# Altium schematic symbol library SCH-47569_A2_Library.SchLib: 98 symbols (part 1 of 3)
Pins are listed as number, name and electrical type; pins without a type are passive.

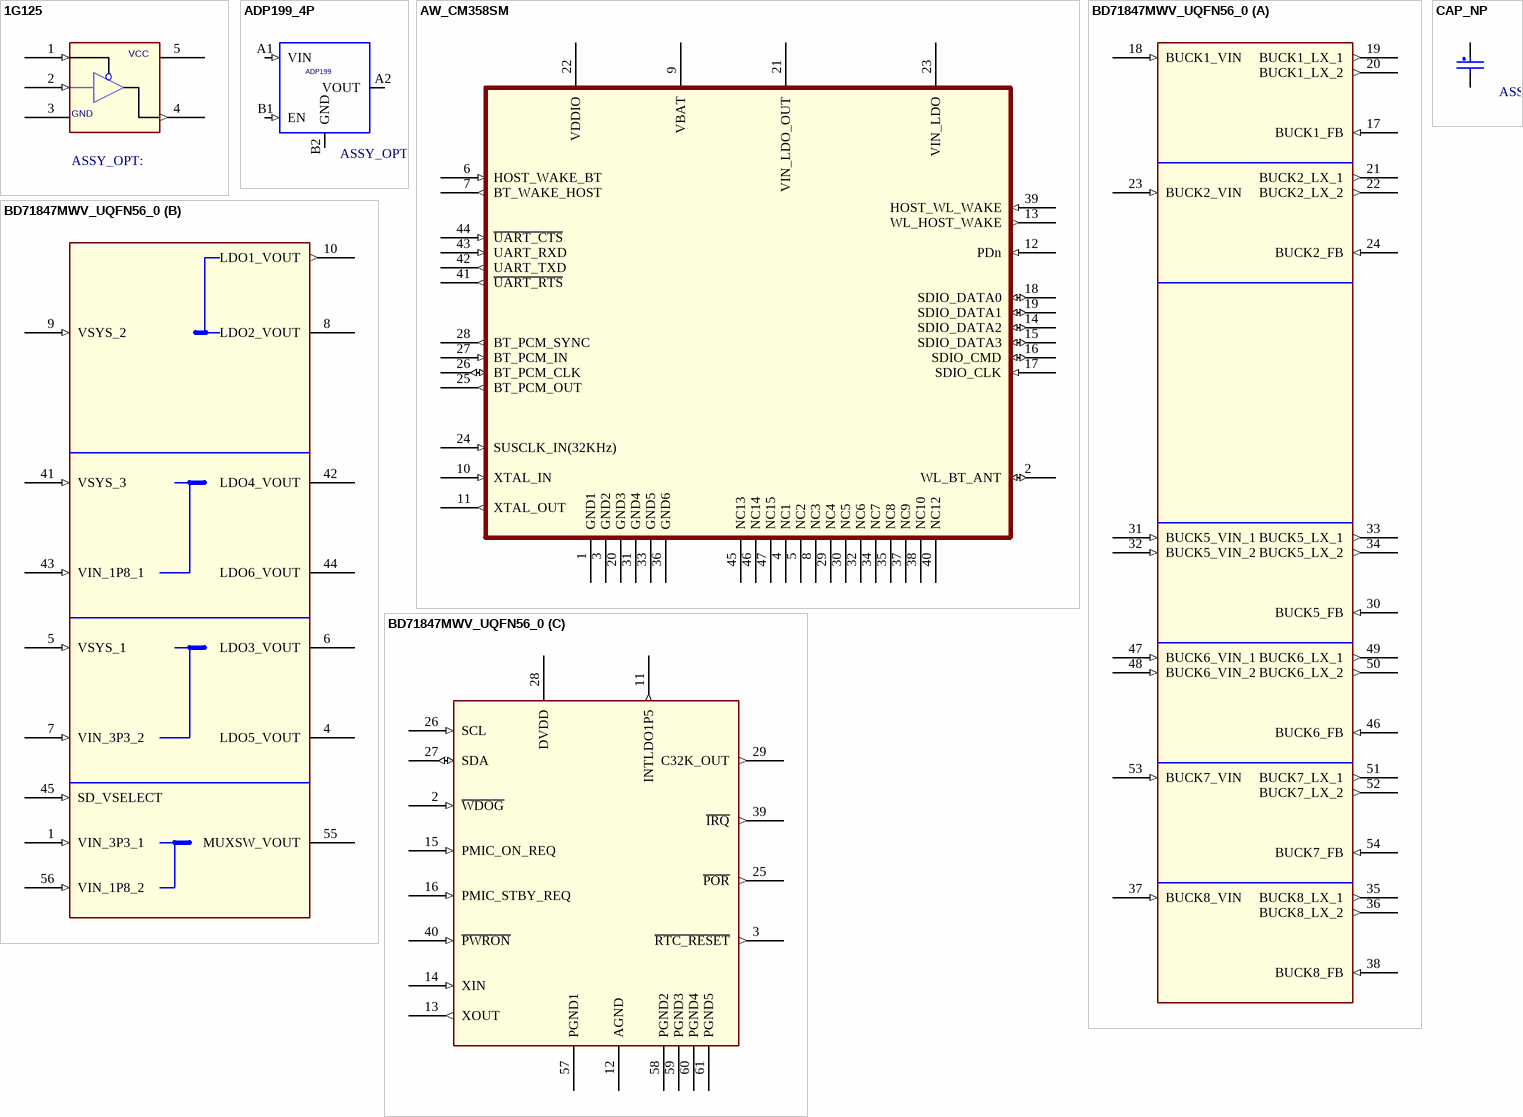
[diagram p0: symbols 1G125 to CAP_NP]

## 1G125
designator U?
CLASS: IC
pins: 1 ~{OE} (in), 2 A (in), 3 GND (power), 4 Y (out), 5 VCC (power)

## ADP199_4P
designator U?
CLASS: IC
pins: A1 VIN (in), A2 VOUT (power), B1 EN (in), B2 GND (power)
text: ADP199

## AW_CM358SM
designator U?
CLASS: IC
pins: 1 GND1 (power), 2 WL_BT_ANT (io), 3 GND2 (power), 4 NC1, 5 NC2, 6 HOST_WAKE_BT (in), 7 BT_WAKE_HOST (out), 8 NC3, 9 VBAT (power), 10 XTAL_IN (in), 11 XTAL_OUT (out), 12 PDn (in), 13 WL_HOST_WAKE (out), 14 SDIO_DATA2 (io), 15 SDIO_DATA3 (io), 16 SDIO_CMD (io), 17 SDIO_CLK (in), 18 SDIO_DATA0 (io), 19 SDIO_DATA1 (io), 20 GND3 (power), 21 VIN_LDO_OUT (power), 22 VDDIO (power), 23 VIN_LDO (power), 24 SUSCLK_IN(32KHz) (in), 25 BT_PCM_OUT (out), 26 BT_PCM_CLK (io), 27 BT_PCM_IN (in), 28 BT_PCM_SYNC (out), 29 NC4, 30 NC5, 31 GND4 (power), 32 NC6, 33 GND5 (power), 34 NC7, 35 NC8, 36 GND6 (power), 37 NC9, 38 NC10, 39 HOST_WL_WAKE (in), 40 NC12, 41 ~{UART_RTS} (out), 42 UART_TXD (out), 43 UART_RXD (in), 44 ~{UART_CTS} (in), 45 NC13, 46 NC14, 47 NC15

## BD71847MWV_UQFN56_0
designator U?
CLASS: IC
footprint BD71837MWV
part A pins: 17 BUCK1_FB (in), 18 BUCK1_VIN (in), 19 BUCK1_LX_1 (out), 20 BUCK1_LX_2 (out), 21 BUCK2_LX_1 (out), 22 BUCK2_LX_2 (out), 23 BUCK2_VIN (in), 24 BUCK2_FB (in), 30 BUCK5_FB (in), 31 BUCK5_VIN_1 (in), 32 BUCK5_VIN_2 (in), 33 BUCK5_LX_1 (out), 34 BUCK5_LX_2 (out), 35 BUCK8_LX_1 (out), 36 BUCK8_LX_2 (out), 37 BUCK8_VIN (in), 38 BUCK8_FB (in), 46 BUCK6_FB (in), 47 BUCK6_VIN_1 (in), 48 BUCK6_VIN_2 (in), 49 BUCK6_LX_1 (out), 50 BUCK6_LX_2 (out), 51 BUCK7_LX_1 (out), 52 BUCK7_LX_2 (out), 53 BUCK7_VIN (in), 54 BUCK7_FB (in)
part B pins: 1 VIN_3P3_1 (in), 4 LDO5_VOUT (power), 5 VSYS_1 (in), 6 LDO3_VOUT (power), 7 VIN_3P3_2 (in), 8 LDO2_VOUT (power), 9 VSYS_2 (in), 10 LDO1_VOUT (out), 41 VSYS_3 (in), 42 LDO4_VOUT (power), 43 VIN_1P8_1 (in), 44 LDO6_VOUT (power), 45 SD_VSELECT (in), 55 MUXSW_VOUT (power), 56 VIN_1P8_2 (in)
part C pins: 2 ~{WDOG} (in), 3 ~{RTC_RESET} (out), 11 INTLDO1P5 (out), 12 AGND (power), 13 XOUT (out), 14 XIN (in), 15 PMIC_ON_REQ (in), 16 PMIC_STBY_REQ (in), 25 ~{POR} (out), 26 SCL (in), 27 SDA (io), 28 DVDD (power), 29 C32K_OUT (out), 39 ~{IRQ} (out), 40 ~{PWRON} (in), 57 PGND1 (power), 58 PGND2 (power), 59 PGND3 (power), 60 PGND4 (power), 61 PGND5 (power)

## CAP_NP
designator C?
CLASS: DISCRETE
pins: 1, 2

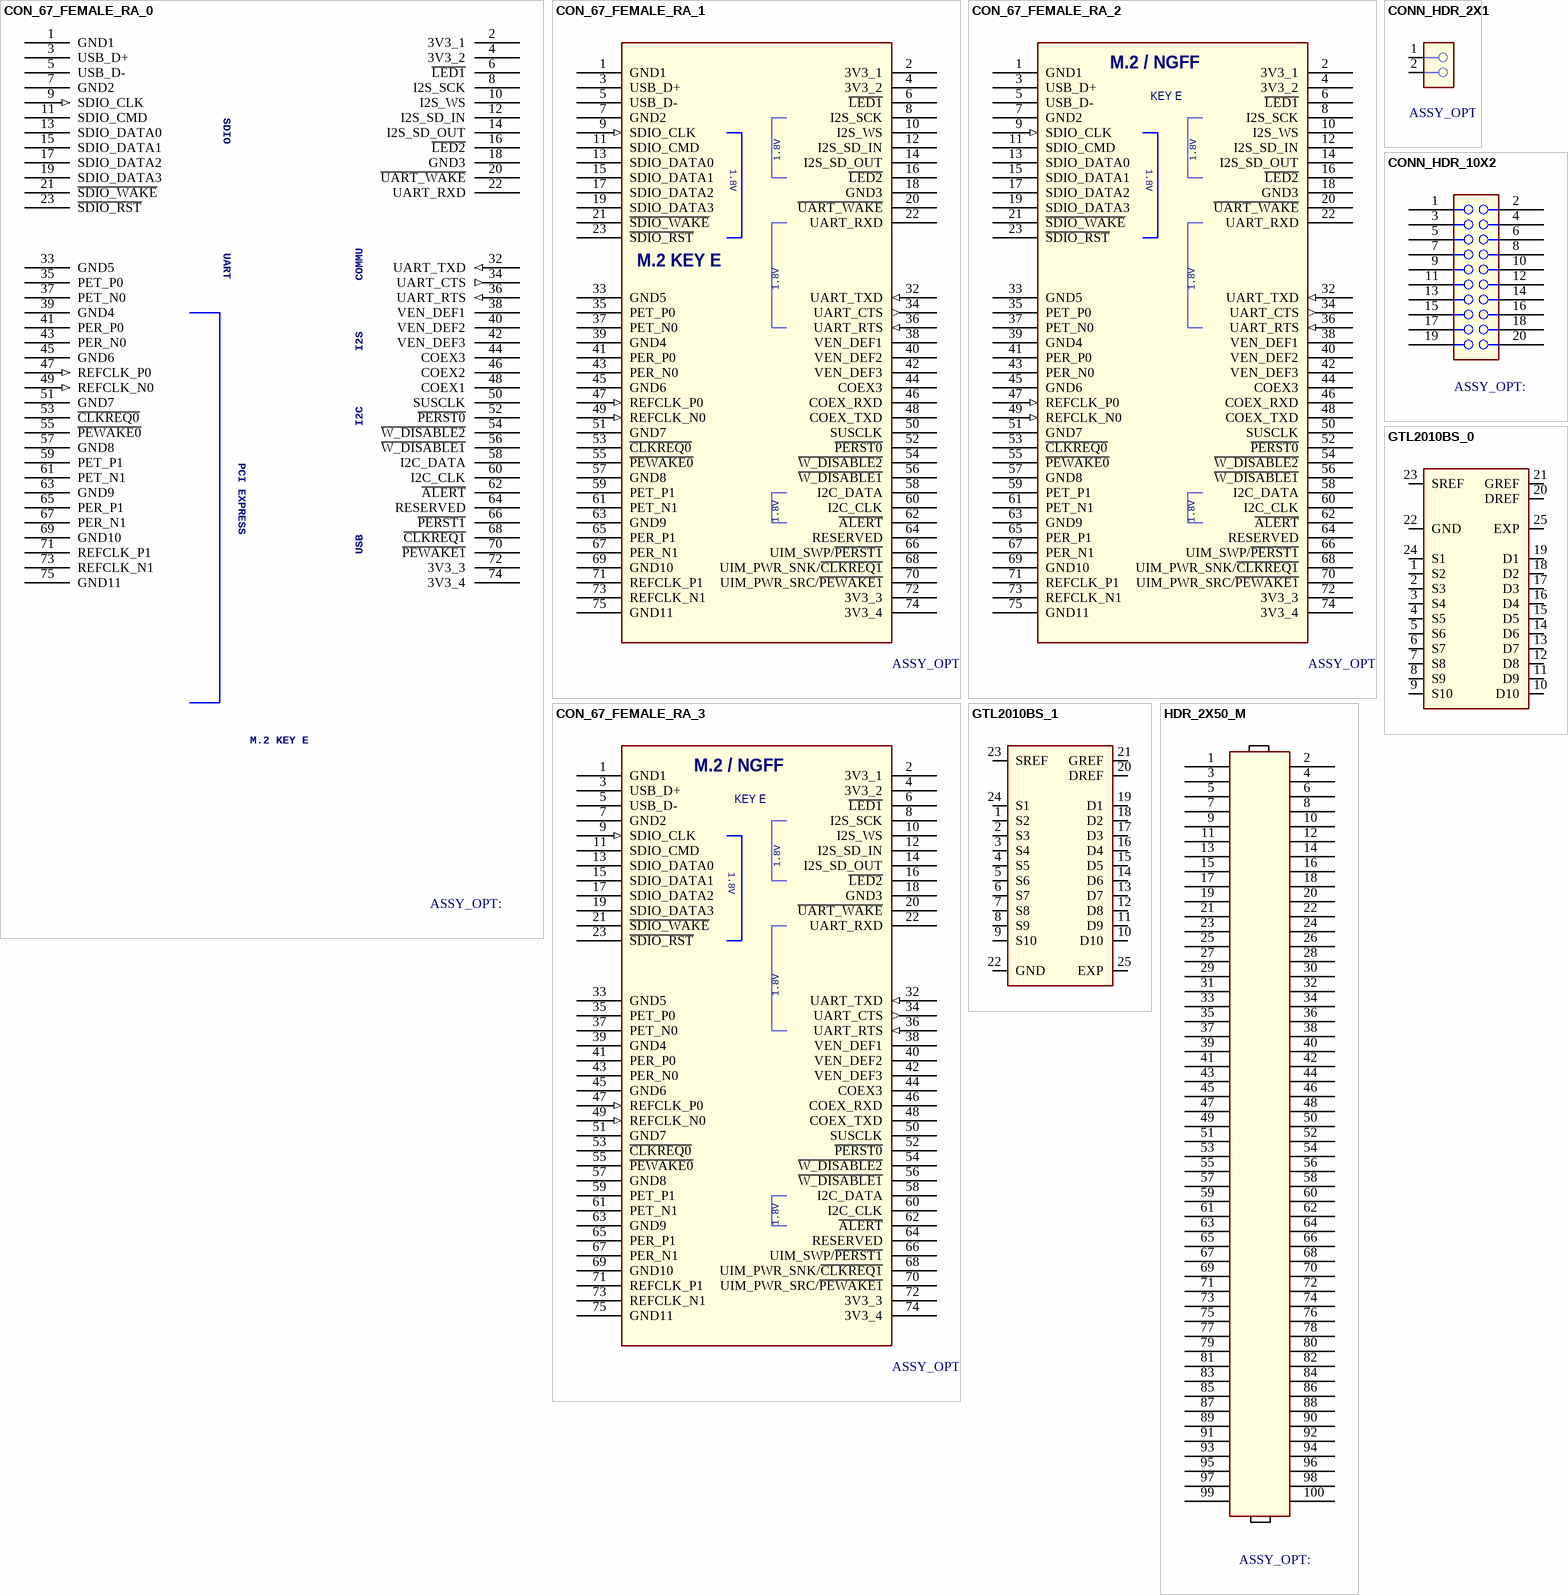
[diagram p1: symbols CON_67_FEMALE_RA_0 to HDR_2X50_M]

## CON_67_FEMALE_RA_0
designator J?
CLASS: IO
pins: 1 GND1 (power), 2 3V3_1 (power), 3 USB_D+, 4 3V3_2 (power), 5 USB_D-, 6 ~{LED1}, 7 GND2 (power), 8 I2S_SCK, 9 SDIO_CLK (in), 10 I2S_WS, 11 SDIO_CMD, 12 I2S_SD_IN, 13 SDIO_DATA0, 14 I2S_SD_OUT, 15 SDIO_DATA1, 16 ~{LED2}, 17 SDIO_DATA2, 18 GND3 (power), 19 SDIO_DATA3, 20 ~{UART_WAKE}, 21 ~{SDIO_WAKE}, 22 UART_RXD, 23 ~{SDIO_RST}, 32 UART_TXD (in), 33 GND5 (power), 34 UART_CTS (out), 35 PET_P0, 36 UART_RTS (in), 37 PET_N0, 38 VEN_DEF1, 39 GND4 (power), 40 VEN_DEF2, 41 PER_P0, 42 VEN_DEF3, 43 PER_N0, 44 COEX3, 45 GND6 (power), 46 COEX2, 47 REFCLK_P0 (in), 48 COEX1, 49 REFCLK_N0 (in), 50 SUSCLK, 51 GND7 (power), 52 ~{PERST0}, 53 ~{CLKREQ0}, 54 ~{W_DISABLE2}, 55 ~{PEWAKE0}, 56 ~{W_DISABLE1}, 57 GND8 (power), 58 I2C_DATA, 59 PET_P1, 60 I2C_CLK, 61 PET_N1, 62 ~{ALERT}, 63 GND9 (power), 64 RESERVED, 65 PER_P1, 66 ~{PERST1}, 67 PER_N1, 68 ~{CLKREQ1}, 69 GND10 (power), 70 ~{PEWAKE1}, 71 REFCLK_P1, 72 3V3_3 (power), 73 REFCLK_N1, 74 3V3_4 (power), 75 GND11 (power)
text: SDIO; UART; COMMU; I2S; I2C; PCI EXPRESS; USB; M.2 KEY E

## CON_67_FEMALE_RA_1
designator J?
CLASS: IO
pins: 1 GND1 (power), 2 3V3_1 (power), 3 USB_D+, 4 3V3_2 (power), 5 USB_D-, 6 ~{LED1}, 7 GND2 (power), 8 I2S_SCK, 9 SDIO_CLK (in), 10 I2S_WS, 11 SDIO_CMD, 12 I2S_SD_IN, 13 SDIO_DATA0, 14 I2S_SD_OUT, 15 SDIO_DATA1, 16 ~{LED2}, 17 SDIO_DATA2, 18 GND3 (power), 19 SDIO_DATA3, 20 ~{UART_WAKE}, 21 ~{SDIO_WAKE}, 22 UART_RXD, 23 ~{SDIO_RST}, 32 UART_TXD (in), 33 GND5 (power), 34 UART_CTS (out), 35 PET_P0, 36 UART_RTS (in), 37 PET_N0, 38 VEN_DEF1, 39 GND4 (power), 40 VEN_DEF2, 41 PER_P0, 42 VEN_DEF3, 43 PER_N0, 44 COEX3, 45 GND6 (power), 46 COEX_RXD, 47 REFCLK_P0 (in), 48 COEX_TXD, 49 REFCLK_N0 (in), 50 SUSCLK, 51 GND7 (power), 52 ~{PERST0}, 53 ~{CLKREQ0}, 54 ~{W_DISABLE2}, 55 ~{PEWAKE0}, 56 ~{W_DISABLE1}, 57 GND8 (power), 58 I2C_DATA, 59 PET_P1, 60 I2C_CLK, 61 PET_N1, 62 ~{ALERT}, 63 GND9 (power), 64 RESERVED, 65 PER_P1, 66 UIM_SWP/~{PERST1}, 67 PER_N1, 68 UIM_PWR_SNK/~{CLKREQ1}, 69 GND10 (power), 70 UIM_PWR_SRC/~{PEWAKE1}, 71 REFCLK_P1, 72 3V3_3 (power), 73 REFCLK_N1, 74 3V3_4 (power), 75 GND11 (power)
text: 1.8V; M.2 KEY E

## CON_67_FEMALE_RA_2
designator J?
CLASS: IO
pins: 1 GND1 (power), 2 3V3_1 (power), 3 USB_D+, 4 3V3_2 (power), 5 USB_D-, 6 ~{LED1}, 7 GND2 (power), 8 I2S_SCK, 9 SDIO_CLK (in), 10 I2S_WS, 11 SDIO_CMD, 12 I2S_SD_IN, 13 SDIO_DATA0, 14 I2S_SD_OUT, 15 SDIO_DATA1, 16 ~{LED2}, 17 SDIO_DATA2, 18 GND3 (power), 19 SDIO_DATA3, 20 ~{UART_WAKE}, 21 ~{SDIO_WAKE}, 22 UART_RXD, 23 ~{SDIO_RST}, 32 UART_TXD (in), 33 GND5 (power), 34 UART_CTS (out), 35 PET_P0, 36 UART_RTS (in), 37 PET_N0, 38 VEN_DEF1, 39 GND4 (power), 40 VEN_DEF2, 41 PER_P0, 42 VEN_DEF3, 43 PER_N0, 44 COEX3, 45 GND6 (power), 46 COEX_RXD, 47 REFCLK_P0 (in), 48 COEX_TXD, 49 REFCLK_N0 (in), 50 SUSCLK, 51 GND7 (power), 52 ~{PERST0}, 53 ~{CLKREQ0}, 54 ~{W_DISABLE2}, 55 ~{PEWAKE0}, 56 ~{W_DISABLE1}, 57 GND8 (power), 58 I2C_DATA, 59 PET_P1, 60 I2C_CLK, 61 PET_N1, 62 ~{ALERT}, 63 GND9 (power), 64 RESERVED, 65 PER_P1, 66 UIM_SWP/~{PERST1}, 67 PER_N1, 68 UIM_PWR_SNK/~{CLKREQ1}, 69 GND10 (power), 70 UIM_PWR_SRC/~{PEWAKE1}, 71 REFCLK_P1, 72 3V3_3 (power), 73 REFCLK_N1, 74 3V3_4 (power), 75 GND11 (power)
text: M.2 / NGFF; KEY E; 1.8V

## CON_67_FEMALE_RA_3
designator J?
CLASS: IO
pins: 1 GND1 (power), 2 3V3_1 (power), 3 USB_D+, 4 3V3_2 (power), 5 USB_D-, 6 ~{LED1}, 7 GND2 (power), 8 I2S_SCK, 9 SDIO_CLK (in), 10 I2S_WS, 11 SDIO_CMD, 12 I2S_SD_IN, 13 SDIO_DATA0, 14 I2S_SD_OUT, 15 SDIO_DATA1, 16 ~{LED2}, 17 SDIO_DATA2, 18 GND3 (power), 19 SDIO_DATA3, 20 ~{UART_WAKE}, 21 ~{SDIO_WAKE}, 22 UART_RXD, 23 ~{SDIO_RST}, 32 UART_TXD (in), 33 GND5 (power), 34 UART_CTS (out), 35 PET_P0, 36 UART_RTS (in), 37 PET_N0, 38 VEN_DEF1, 39 GND4 (power), 40 VEN_DEF2, 41 PER_P0, 42 VEN_DEF3, 43 PER_N0, 44 COEX3, 45 GND6 (power), 46 COEX_RXD, 47 REFCLK_P0 (in), 48 COEX_TXD, 49 REFCLK_N0 (in), 50 SUSCLK, 51 GND7 (power), 52 ~{PERST0}, 53 ~{CLKREQ0}, 54 ~{W_DISABLE2}, 55 ~{PEWAKE0}, 56 ~{W_DISABLE1}, 57 GND8 (power), 58 I2C_DATA, 59 PET_P1, 60 I2C_CLK, 61 PET_N1, 62 ~{ALERT}, 63 GND9 (power), 64 RESERVED, 65 PER_P1, 66 UIM_SWP/~{PERST1}, 67 PER_N1, 68 UIM_PWR_SNK/~{CLKREQ1}, 69 GND10 (power), 70 UIM_PWR_SRC/~{PEWAKE1}, 71 REFCLK_P1, 72 3V3_3 (power), 73 REFCLK_N1, 74 3V3_4 (power), 75 GND11 (power)
text: M.2 / NGFF; KEY E; 1.8V

## CONN_HDR_2X1
designator J?
CLASS: IO
pins: 1, 2

## CONN_HDR_10X2
designator J?
CLASS: IO
pins: 1, 2, 3, 4, 5, 6, 7, 8, 9, 10, 11, 12, 13, 14, 15, 16, 17, 18, 19, 20

## GTL2010BS_0
designator U?
CLASS: IC
pins: 1 S2 (io), 2 S3 (io), 3 S4 (io), 4 S5 (io), 5 S6 (io), 6 S7 (io), 7 S8 (io), 8 S9 (io), 9 S10 (io), 10 D10 (io), 11 D9 (io), 12 D8 (io), 13 D7 (io), 14 D6 (io), 15 D5 (io), 16 D4 (io), 17 D3 (io), 18 D2 (io), 19 D1 (io), 20 DREF, 21 GREF, 22 GND (power), 23 SREF, 24 S1 (io), 25 EXP (power)

## GTL2010BS_1
designator U?
CLASS: IC
pins: 1 S2 (io), 2 S3 (io), 3 S4 (io), 4 S5 (io), 5 S6 (io), 6 S7 (io), 7 S8 (io), 8 S9 (io), 9 S10 (io), 10 D10 (io), 11 D9 (io), 12 D8 (io), 13 D7 (io), 14 D6 (io), 15 D5 (io), 16 D4 (io), 17 D3 (io), 18 D2 (io), 19 D1 (io), 20 DREF, 21 GREF, 22 GND (power), 23 SREF, 24 S1 (io), 25 EXP (power)

## HDR_2X50_M
designator J?
CLASS: IO
pins: 1, 2, 3, 4, 5, 6, 7, 8, 9, 10, 11, 12, 13, 14, 15, 16, 17, 18, 19, 20, 21, 22, 23, 24, 25, 26, 27, 28, 29, 30, 31, 32, 33, 34, 35, 36, 37, 38, 39, 40, 41, 42, 43, 44, 45, 46, 47, 48, 49, 50, 51, 52, 53, 54, 55, 56, 57, 58, 59, 60, 61, 62, 63, 64, 65, 66, 67, 68, 69, 70, 71, 72, 73, 74, 75, 76, 77, 78, 79, 80, 81, 82, 83, 84, 85, 86, 87, 88, 89, 90, 91, 92, 93, 94, 95, 96, 97, 98, 99, 100

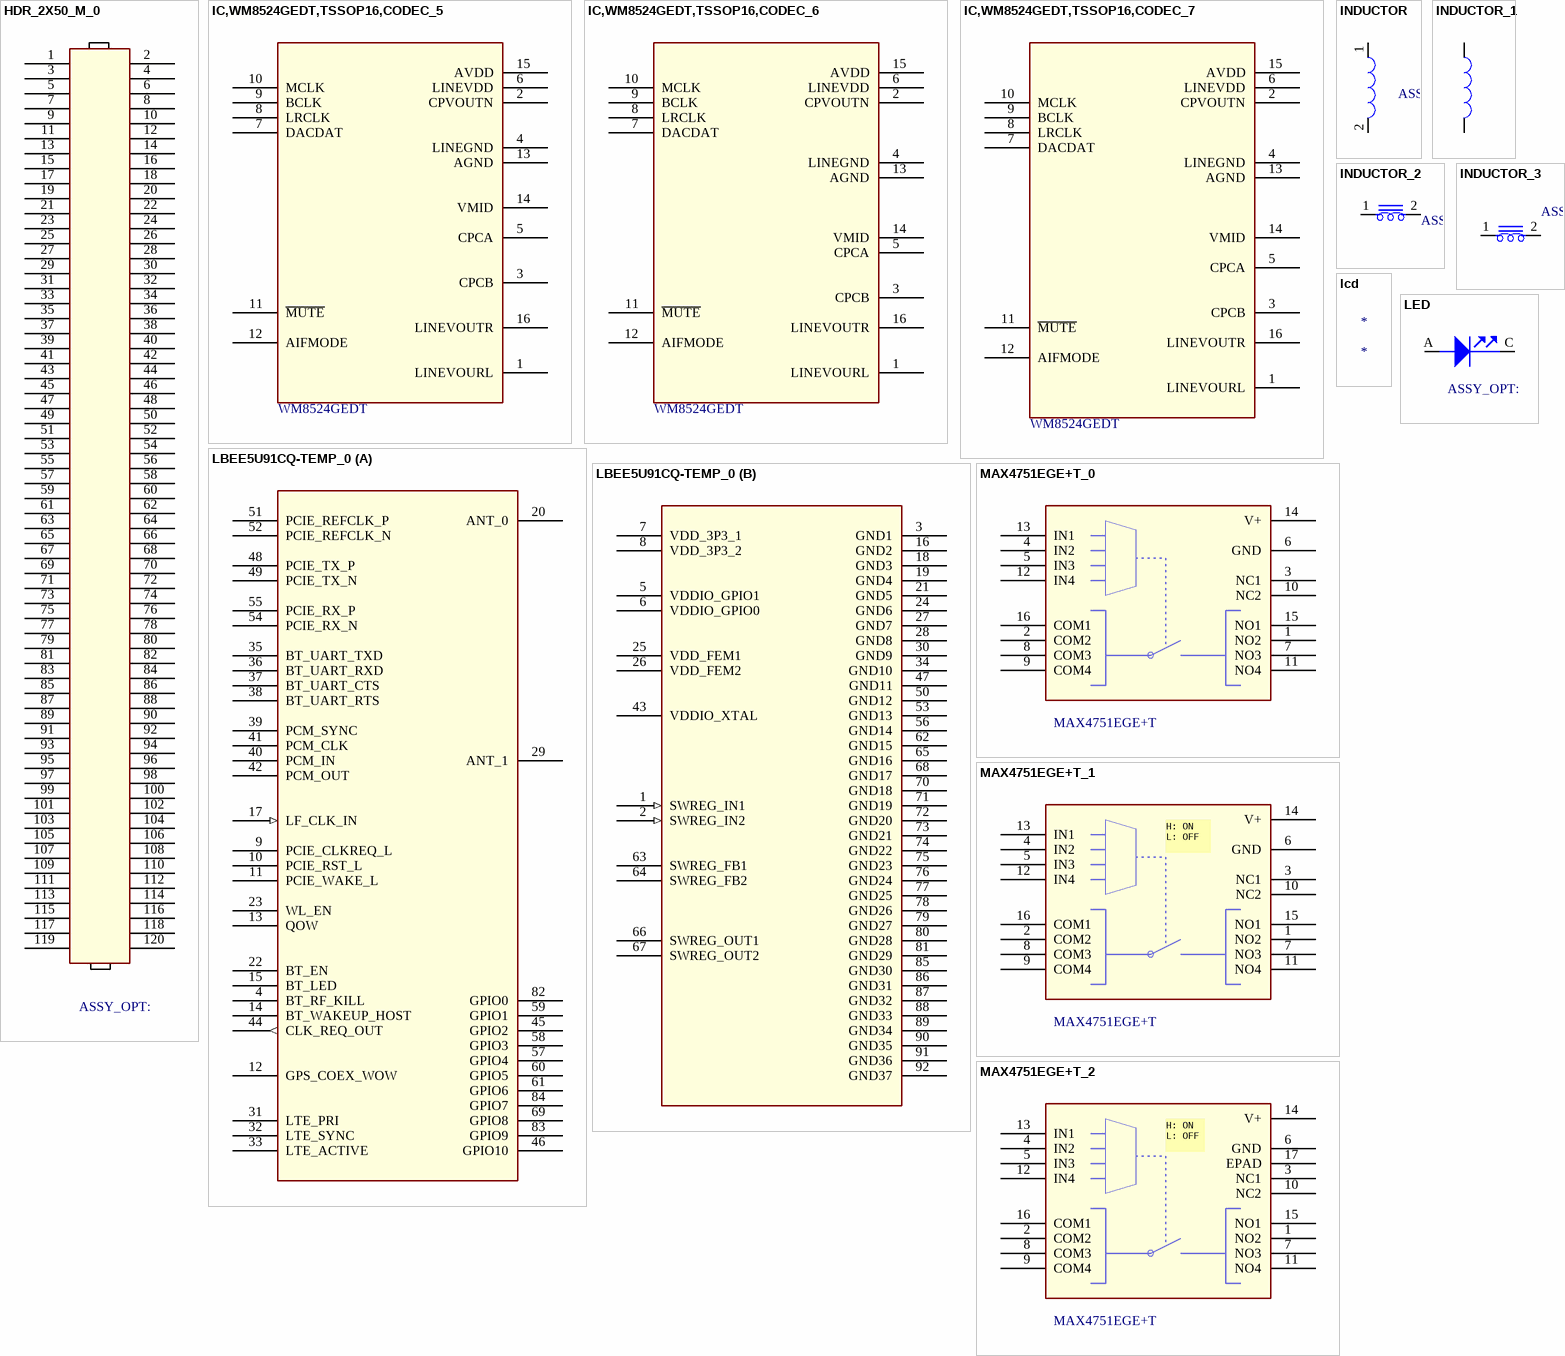
[diagram p2: symbols HDR_2X50_M_0 to MAX4751EGE+T_2]

## HDR_2X50_M_0
designator J?
CLASS: IO
pins: 1, 2, 3, 4, 5, 6, 7, 8, 9, 10, 11, 12, 13, 14, 15, 16, 17, 18, 19, 20, 21, 22, 23, 24, 25, 26, 27, 28, 29, 30, 31, 32, 33, 34, 35, 36, 37, 38, 39, 40, 41, 42, 43, 44, 45, 46, 47, 48, 49, 50, 51, 52, 53, 54, 55, 56, 57, 58, 59, 60, 61, 62, 63, 64, 65, 66, 67, 68, 69, 70, 71, 72, 73, 74, 75, 76, 77, 78, 79, 80, 81, 82, 83, 84, 85, 86, 87, 88, 89, 90, 91, 92, 93, 94, 95, 96, 97, 98, 99, 100, 101, 102, 103, 104, 105, 106, 107, 108, 109, 110, 111, 112, 113, 114, 115, 116, 117, 118, 119, 120

## IC,WM8524GEDT,TSSOP16,CODEC_5
designator U?, comment WM8524GEDT
IC,WM8524GEDT,TSSOP16,24-bit 192kHz Stereo DAC; Vendor: Wolfson; VPN: WM8524GEDT
footprint TSSOP16
pins: 1 LINEVOURL, 2 CPVOUTN, 3 CPCB, 4 LINEGND, 5 CPCA, 6 LINEVDD, 7 DACDAT, 8 LRCLK, 9 BCLK, 10 MCLK, 11 ~{MUTE}, 12 AIFMODE, 13 AGND, 14 VMID, 15 AVDD, 16 LINEVOUTR

## IC,WM8524GEDT,TSSOP16,CODEC_6
designator U?, comment WM8524GEDT
IC,WM8524GEDT,TSSOP16,24-bit 192kHz Stereo DAC; Vendor: Wolfson; VPN: WM8524GEDT
footprint TSSOP16
pins: 1 LINEVOURL, 2 CPVOUTN, 3 CPCB, 4 LINEGND, 5 CPCA, 6 LINEVDD, 7 DACDAT, 8 LRCLK, 9 BCLK, 10 MCLK, 11 ~{MUTE}, 12 AIFMODE, 13 AGND, 14 VMID, 15 AVDD, 16 LINEVOUTR

## IC,WM8524GEDT,TSSOP16,CODEC_7
designator U?, comment WM8524GEDT
IC,WM8524GEDT,TSSOP16,24-bit 192kHz Stereo DAC; Vendor: Wolfson; VPN: WM8524GEDT
footprint TSSOP16
pins: 1 LINEVOURL, 2 CPVOUTN, 3 CPCB, 4 LINEGND, 5 CPCA, 6 LINEVDD, 7 DACDAT, 8 LRCLK, 9 BCLK, 10 MCLK, 11 ~{MUTE}, 12 AIFMODE, 13 AGND, 14 VMID, 15 AVDD, 16 LINEVOUTR

## INDUCTOR
designator L?
CLASS: DISCRETE
pins: 1, 2

## INDUCTOR_1
designator L?
CLASS: DISCRETE
pins: 1, 2

## INDUCTOR_2
designator L?
CLASS: DISCRETE
pins: 1, 2

## INDUCTOR_3
designator L?
CLASS: DISCRETE
pins: 1, 2

## LBEE5U91CQ-TEMP_0
designator U?
SWAP_INFO: (S1+S2); SPLIT_INST: TRUE
footprint SiP92_11x8p8mm
part A pins: 4 BT_RF_KILL, 9 PCIE_CLKREQ_L, 10 PCIE_RST_L, 11 PCIE_WAKE_L, 12 GPS_COEX_WOW, 13 QOW, 14 BT_WAKEUP_HOST, 15 BT_LED, 17 LF_CLK_IN (in), 20 ANT_0, 22 BT_EN, 23 WL_EN, 29 ANT_1, 31 LTE_PRI, 32 LTE_SYNC, 33 LTE_ACTIVE, 35 BT_UART_TXD, 36 BT_UART_RXD, 37 BT_UART_CTS, 38 BT_UART_RTS, 39 PCM_SYNC, 40 PCM_IN, 41 PCM_CLK, 42 PCM_OUT, 44 CLK_REQ_OUT (out), 45 GPIO2, 46 GPIO10, 48 PCIE_TX_P, 49 PCIE_TX_N, 51 PCIE_REFCLK_P, 52 PCIE_REFCLK_N, 54 PCIE_RX_N, 55 PCIE_RX_P, 57 GPIO4, 58 GPIO3, 59 GPIO1, 60 GPIO5, 61 GPIO6, 69 GPIO8, 82 GPIO0, 83 GPIO9, 84 GPIO7
part B pins: 1 SWREG_IN1 (in), 2 SWREG_IN2 (in), 3 GND1 (power), 5 VDDIO_GPIO1 (power), 6 VDDIO_GPIO0 (power), 7 VDD_3P3_1 (power), 8 VDD_3P3_2 (power), 16 GND2 (power), 18 GND3 (power), 19 GND4 (power), 21 GND5 (power), 24 GND6 (power), 25 VDD_FEM1 (power), 26 VDD_FEM2 (power), 27 GND7 (power), 28 GND8 (power), 30 GND9 (power), 34 GND10 (power), 43 VDDIO_XTAL (power), 47 GND11 (power), 50 GND12 (power), 53 GND13 (power), 56 GND14 (power), 62 GND15 (power), 63 SWREG_FB1, 64 SWREG_FB2, 65 GND16 (power), 66 SWREG_OUT1, 67 SWREG_OUT2, 68 GND17 (power), 70 GND18 (power), 71 GND19 (power), 72 GND20 (power), 73 GND21 (power), 74 GND22 (power), 75 GND23 (power), 76 GND24 (power), 77 GND25 (power), 78 GND26 (power), 79 GND27 (power), 80 GND28 (power), 81 GND29 (power), 85 GND30 (power), 86 GND31 (power), 87 GND32 (power), 88 GND33 (power), 89 GND34 (power), 90 GND35 (power), 91 GND36 (power), 92 GND37 (power)

## lcd
designator *

## LED
designator D?
CLASS: IC
pins: A ANODE, C CATHODE

## MAX4751EGE+T_0
designator U?, comment MAX4751EGE+T
footprint qfn16_0p5_3x3mm
pins: 1 NO2, 2 COM2, 3 NC1, 4 IN2, 5 IN3, 6 GND, 7 NO3, 8 COM3, 9 COM4, 10 NC2, 11 NO4, 12 IN4, 13 IN1, 14 V+, 15 NO1, 16 COM1

## MAX4751EGE+T_1
designator U?, comment MAX4751EGE+T
footprint qfn16_0p5_3x3mm
pins: 1 NO2, 2 COM2, 3 NC1, 4 IN2, 5 IN3, 6 GND, 7 NO3, 8 COM3, 9 COM4, 10 NC2, 11 NO4, 12 IN4, 13 IN1, 14 V+, 15 NO1, 16 COM1
text: H: ON / L: OFF

## MAX4751EGE+T_2
designator U?, comment MAX4751EGE+T
footprint qfn16_0p5_3x3mm
pins: 1 NO2, 2 COM2, 3 NC1, 4 IN2, 5 IN3, 6 GND, 7 NO3, 8 COM3, 9 COM4, 10 NC2, 11 NO4, 12 IN4, 13 IN1, 14 V+, 15 NO1, 16 COM1, 17 EPAD
text: H: ON / L: OFF

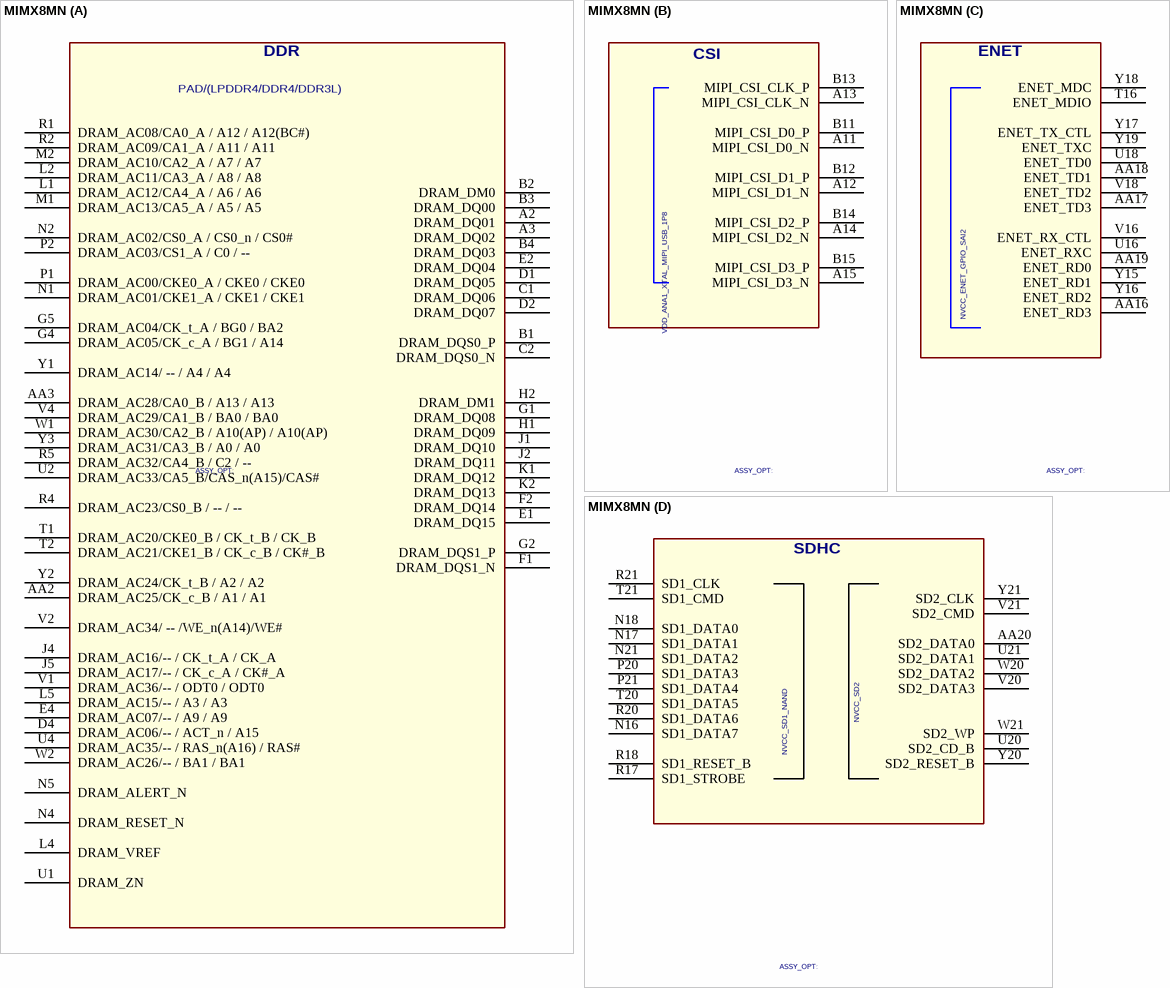
[diagram p3: symbol MIMX8MN]

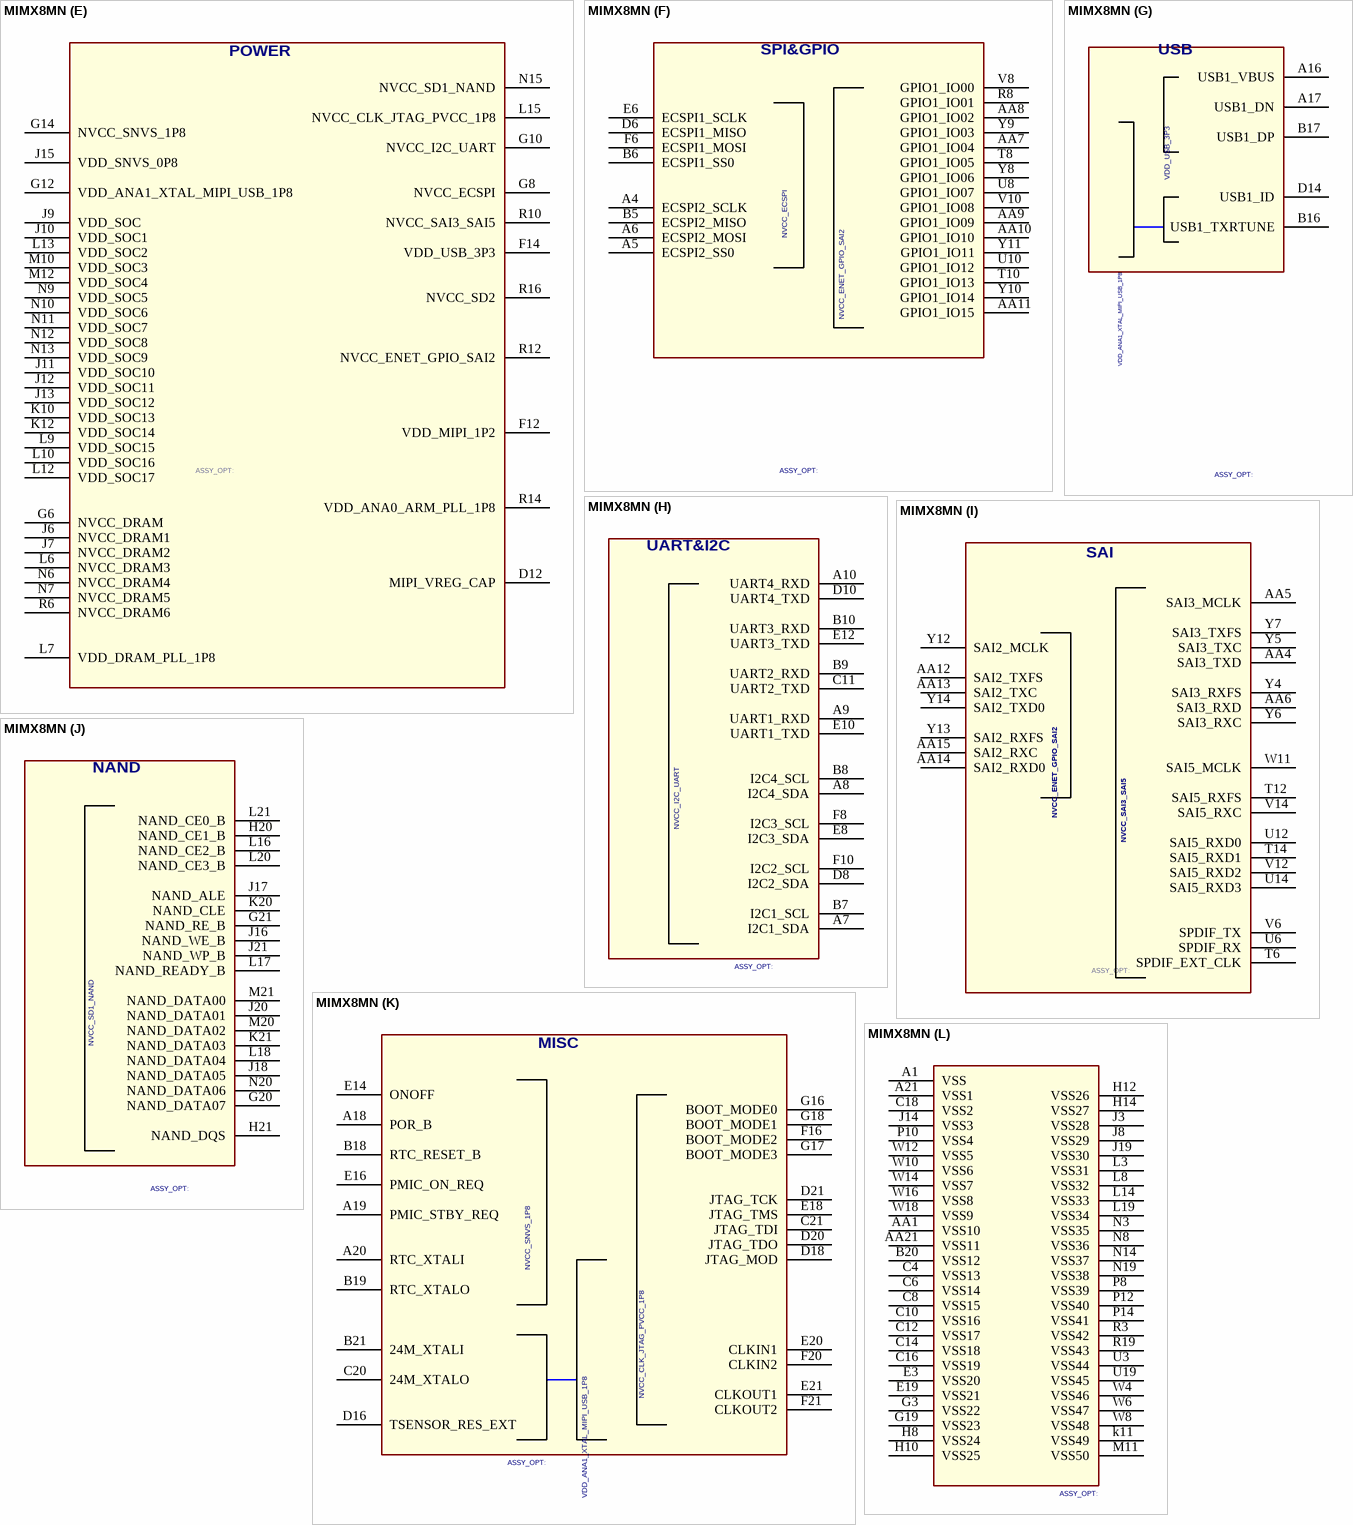
[diagram p4: symbol MIMX8MN]

## MIMX8MN
designator U?
CLASS: IC
part A pins: A2 DRAM_DQ01, A3 DRAM_DQ02, AA2 DRAM_AC25/CK_c_B / A1 / A1, AA3 DRAM_AC28/CA0_B / A13 / A13, B1 DRAM_DQS0_P, B2 DRAM_DM0, B3 DRAM_DQ00, B4 DRAM_DQ03, C1 DRAM_DQ06, C2 DRAM_DQS0_N, D1 DRAM_DQ05, D2 DRAM_DQ07, D4 DRAM_AC06/-- / ACT_n / A15, E1 DRAM_DQ15, E2 DRAM_DQ04, E4 DRAM_AC07/-- / A9 / A9, F1 DRAM_DQS1_N, F2 DRAM_DQ14, G1 DRAM_DQ08, G2 DRAM_DQS1_P, G4 DRAM_AC05/CK_c_A / BG1 / A14, G5 DRAM_AC04/CK_t_A / BG0 / BA2, H1 DRAM_DQ09, H2 DRAM_DM1, J1 DRAM_DQ10, J2 DRAM_DQ11, J4 DRAM_AC16/-- / CK_t_A / CK_A, J5 DRAM_AC17/-- / CK_c_A / CK#_A, K1 DRAM_DQ12, K2 DRAM_DQ13, L1 DRAM_AC12/CA4_A / A6 / A6, L2 DRAM_AC11/CA3_A / A8 / A8, L4 DRAM_VREF, L5 DRAM_AC15/-- / A3 / A3, M1 DRAM_AC13/CA5_A / A5 / A5, M2 DRAM_AC10/CA2_A / A7 / A7, N1 DRAM_AC01/CKE1_A / CKE1 / CKE1, N2 DRAM_AC02/CS0_A / CS0_n / CS0#, N4 DRAM_RESET_N, N5 DRAM_ALERT_N, P1 DRAM_AC00/CKE0_A / CKE0 / CKE0, P2 DRAM_AC03/CS1_A / C0 / --, R1 DRAM_AC08/CA0_A / A12 / A12(BC#), R2 DRAM_AC09/CA1_A / A11 / A11, R4 DRAM_AC23/CS0_B / -- / --, R5 DRAM_AC32/CA4_B / C2 / --, T1 DRAM_AC20/CKE0_B / CK_t_B / CK_B, T2 DRAM_AC21/CKE1_B / CK_c_B / CK#_B, U1 DRAM_ZN, U2 DRAM_AC33/CA5_B/CAS_n(A15)/CAS#, U4 DRAM_AC35/-- / RAS_n(A16) / RAS#, V1 DRAM_AC36/-- / ODT0 / ODT0, V2 DRAM_AC34/ -- /WE_n(A14)/WE#, V4 DRAM_AC29/CA1_B / BA0 / BA0, W1 DRAM_AC30/CA2_B / A10(AP) / A10(AP), W2 DRAM_AC26/-- / BA1 / BA1, Y1 DRAM_AC14/ -- / A4 / A4, Y2 DRAM_AC24/CK_t_B / A2 / A2, Y3 DRAM_AC31/CA3_B / A0 / A0
part B pins: A11 MIPI_CSI_D0_N, A12 MIPI_CSI_D1_N, A13 MIPI_CSI_CLK_N, A14 MIPI_CSI_D2_N, A15 MIPI_CSI_D3_N, B11 MIPI_CSI_D0_P, B12 MIPI_CSI_D1_P, B13 MIPI_CSI_CLK_P, B14 MIPI_CSI_D2_P, B15 MIPI_CSI_D3_P
part C pins: AA16 ENET_RD3, AA17 ENET_TD3, AA18 ENET_TD1, AA19 ENET_RD0, T16 ENET_MDIO, U16 ENET_RXC, U18 ENET_TD0, V16 ENET_RX_CTL, V18 ENET_TD2, Y15 ENET_RD1, Y16 ENET_RD2, Y17 ENET_TX_CTL, Y18 ENET_MDC, Y19 ENET_TXC
part D pins: AA20 SD2_DATA0, N16 SD1_DATA7, N17 SD1_DATA1, N18 SD1_DATA0, N21 SD1_DATA2, P20 SD1_DATA3, P21 SD1_DATA4, R17 SD1_STROBE, R18 SD1_RESET_B, R20 SD1_DATA6, R21 SD1_CLK, T20 SD1_DATA5, T21 SD1_CMD, U20 SD2_CD_B, U21 SD2_DATA1, V20 SD2_DATA3, V21 SD2_CMD, W20 SD2_DATA2, W21 SD2_WP, Y20 SD2_RESET_B, Y21 SD2_CLK
part E pins: D12 MIPI_VREG_CAP, F12 VDD_MIPI_1P2, F14 VDD_USB_3P3, G6 NVCC_DRAM, G8 NVCC_ECSPI, G10 NVCC_I2C_UART, G12 VDD_ANA1_XTAL_MIPI_USB_1P8, G14 NVCC_SNVS_1P8, J6 NVCC_DRAM1, J7 NVCC_DRAM2, J9 VDD_SOC, J10 VDD_SOC1, J11 VDD_SOC10, J12 VDD_SOC11, J13 VDD_SOC12, J15 VDD_SNVS_0P8, K10 VDD_SOC13, K12 VDD_SOC14, L6 NVCC_DRAM3, L7 VDD_DRAM_PLL_1P8, L9 VDD_SOC15, L10 VDD_SOC16, L12 VDD_SOC17, L13 VDD_SOC2, L15 NVCC_CLK_JTAG_PVCC_1P8, M10 VDD_SOC3, M12 VDD_SOC4, N6 NVCC_DRAM4, N7 NVCC_DRAM5, N9 VDD_SOC5, N10 VDD_SOC6, N11 VDD_SOC7, N12 VDD_SOC8, N13 VDD_SOC9, N15 NVCC_SD1_NAND, R6 NVCC_DRAM6, R10 NVCC_SAI3_SAI5, R12 NVCC_ENET_GPIO_SAI2, R14 VDD_ANA0_ARM_PLL_1P8, R16 NVCC_SD2
part F pins: A4 ECSPI2_SCLK, A5 ECSPI2_SS0, A6 ECSPI2_MOSI, AA7 GPIO1_IO04, AA8 GPIO1_IO02, AA9 GPIO1_IO09, AA10 GPIO1_IO10, AA11 GPIO1_IO15, B5 ECSPI2_MISO, B6 ECSPI1_SS0, D6 ECSPI1_MISO, E6 ECSPI1_SCLK, F6 ECSPI1_MOSI, R8 GPIO1_IO01, T8 GPIO1_IO05, T10 GPIO1_IO13, U8 GPIO1_IO07, U10 GPIO1_IO12, V8 GPIO1_IO00, V10 GPIO1_IO08, Y8 GPIO1_IO06, Y9 GPIO1_IO03, Y10 GPIO1_IO14, Y11 GPIO1_IO11
part G pins: A16 USB1_VBUS, A17 USB1_DN, B16 USB1_TXRTUNE, B17 USB1_DP, D14 USB1_ID
part H pins: A7 I2C1_SDA, A8 I2C4_SDA, A9 UART1_RXD, A10 UART4_RXD, B7 I2C1_SCL, B8 I2C4_SCL, B9 UART2_RXD, B10 UART3_RXD, C11 UART2_TXD, D8 I2C2_SDA, D10 UART4_TXD, E8 I2C3_SDA, E10 UART1_TXD, E12 UART3_TXD, F8 I2C3_SCL, F10 I2C2_SCL
part I pins: AA4 SAI3_TXD, AA5 SAI3_MCLK, AA6 SAI3_RXD, AA12 SAI2_TXFS, AA13 SAI2_TXC, AA14 SAI2_RXD0, AA15 SAI2_RXC, T6 SPDIF_EXT_CLK, T12 SAI5_RXFS, T14 SAI5_RXD1, U6 SPDIF_RX, U12 SAI5_RXD0, U14 SAI5_RXD3, V6 SPDIF_TX, V12 SAI5_RXD2, V14 SAI5_RXC, W11 SAI5_MCLK, Y4 SAI3_RXFS, Y5 SAI3_TXC, Y6 SAI3_RXC, Y7 SAI3_TXFS, Y12 SAI2_MCLK, Y13 SAI2_RXFS, Y14 SAI2_TXD0
part J pins: G20 NAND_DATA07, G21 NAND_RE_B, H20 NAND_CE1_B, H21 NAND_DQS, J16 NAND_WE_B, J17 NAND_ALE, J18 NAND_DATA05, J20 NAND_DATA01, J21 NAND_WP_B, K20 NAND_CLE, K21 NAND_DATA03, L16 NAND_CE2_B, L17 NAND_READY_B, L18 NAND_DATA04, L20 NAND_CE3_B, L21 NAND_CE0_B, M20 NAND_DATA02, M21 NAND_DATA00, N20 NAND_DATA06
part K pins: A18 POR_B, A19 PMIC_STBY_REQ, A20 RTC_XTALI, B18 RTC_RESET_B, B19 RTC_XTALO, B21 24M_XTALI, C20 24M_XTALO, C21 JTAG_TDI, D16 TSENSOR_RES_EXT, D18 JTAG_MOD, D20 JTAG_TDO, D21 JTAG_TCK, E14 ONOFF, E16 PMIC_ON_REQ, E18 JTAG_TMS, E20 CLKIN1, E21 CLKOUT1, F16 BOOT_MODE2, F20 CLKIN2, F21 CLKOUT2, G16 BOOT_MODE0, G17 BOOT_MODE3, G18 BOOT_MODE1
part L pins: A1 VSS, A21 VSS1, AA1 VSS10, AA21 VSS11, B20 VSS12, C4 VSS13, C6 VSS14, C8 VSS15, C10 VSS16, C12 VSS17, C14 VSS18, C16 VSS19, C18 VSS2, E3 VSS20, E19 VSS21, G3 VSS22, G19 VSS23, H8 VSS24, H10 VSS25, H12 VSS26, H14 VSS27, J3 VSS28, J8 VSS29, J14 VSS3, J19 VSS30, k11 VSS49, L3 VSS31, L8 VSS32, L14 VSS33, L19 VSS34, M11 VSS50, N3 VSS35, N8 VSS36, N14 VSS37, N19 VSS38, P8 VSS39, P10 VSS4, P12 VSS40, P14 VSS41, R3 VSS42, R19 VSS43, U3 VSS44, U19 VSS45, W4 VSS46, W6 VSS47, W8 VSS48, W10 VSS6, W12 VSS5, W14 VSS7, W16 VSS8, W18 VSS9
part A text: DDR; PAD/(LPDDR4/DDR4/DDR3L)
part B text: CSI
part C text: ENET
part D text: SDHC
part E text: POWER
part F text: SPI&GPIO
part G text: USB
part H text: UART&I2C
part I text: SAI
part J text: NAND
part K text: MISC

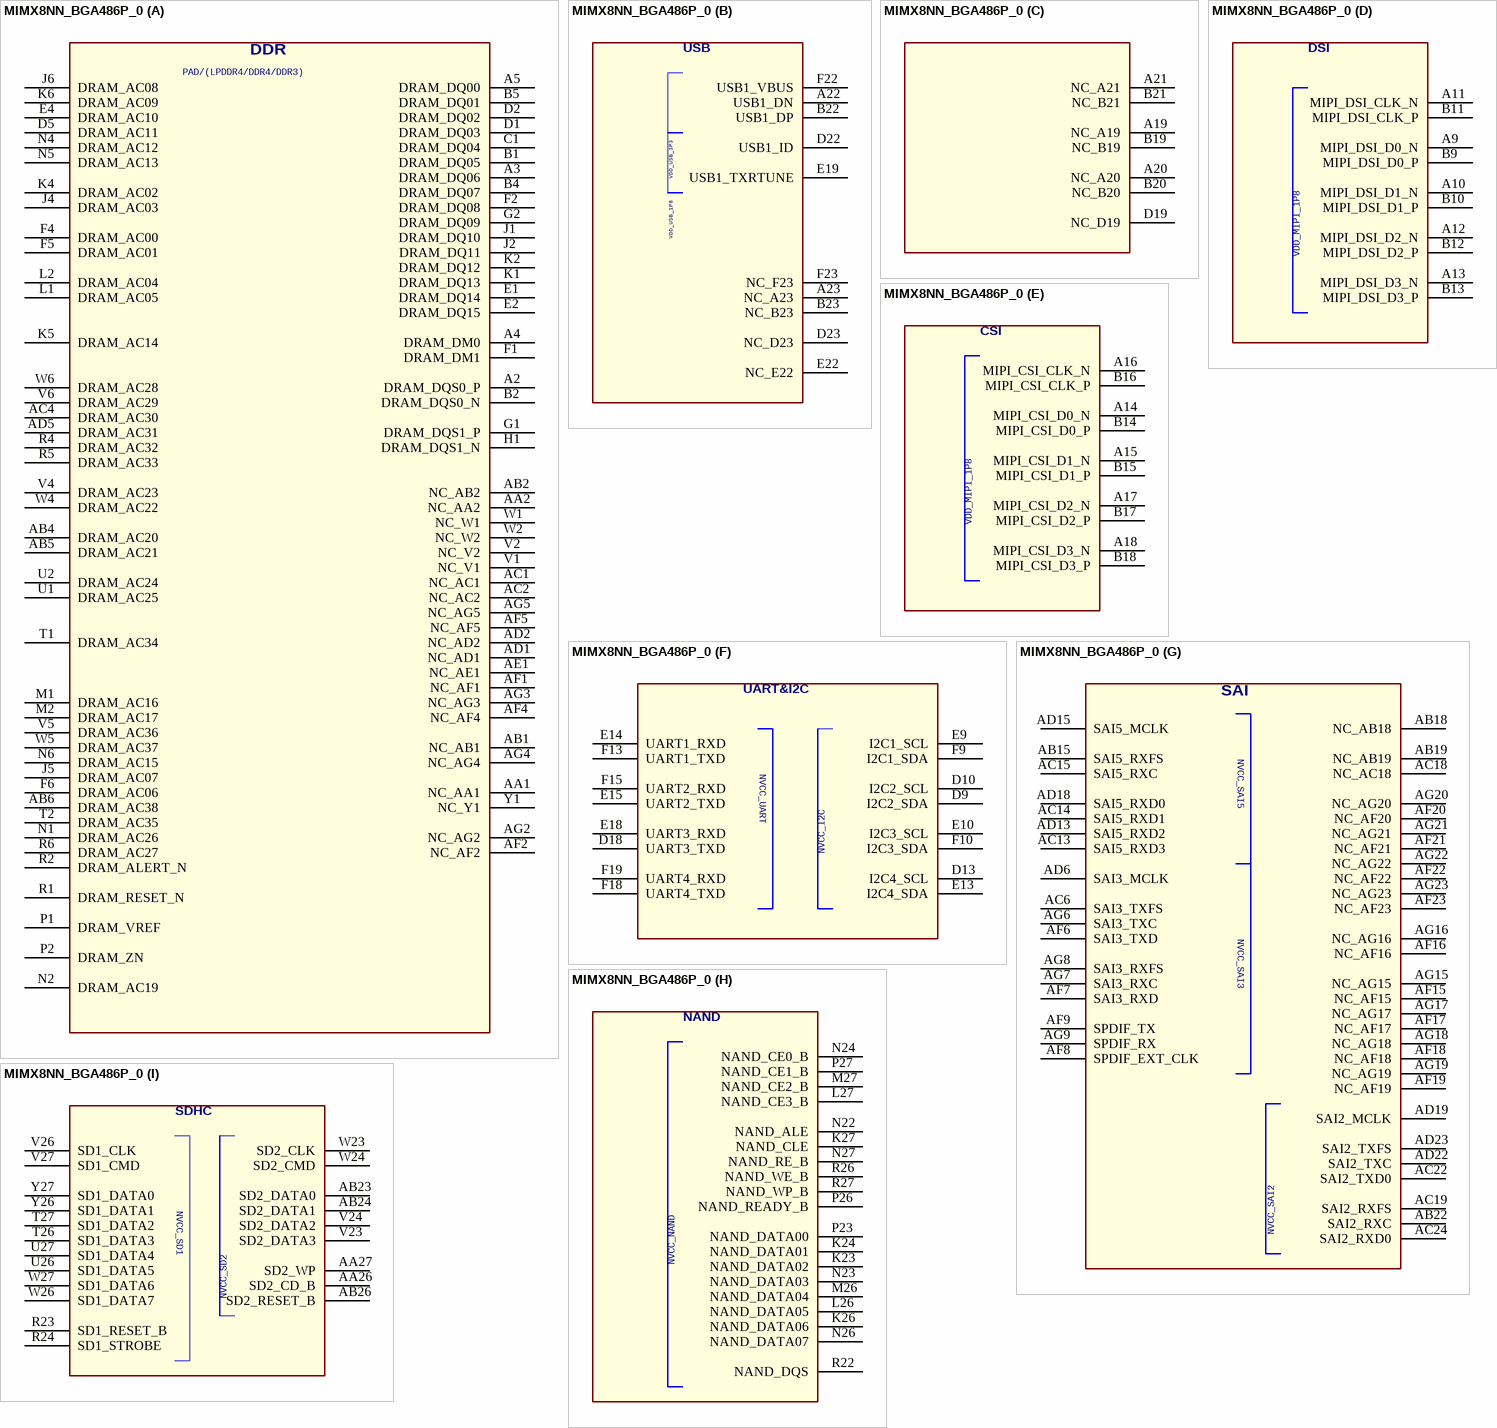
[diagram p5: symbol MIMX8NN_BGA486P_0]

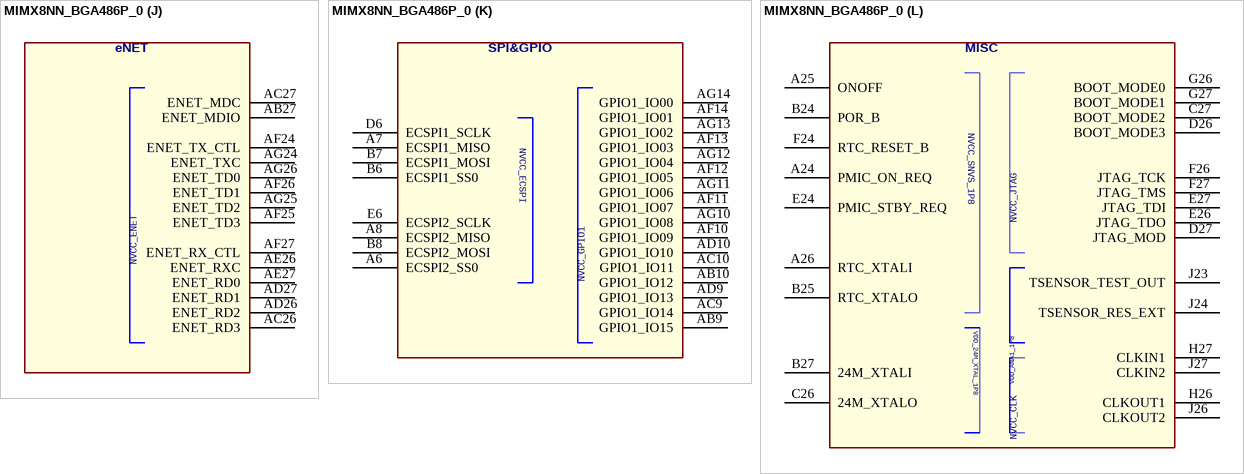
[diagram p6: symbol MIMX8NN_BGA486P_0]

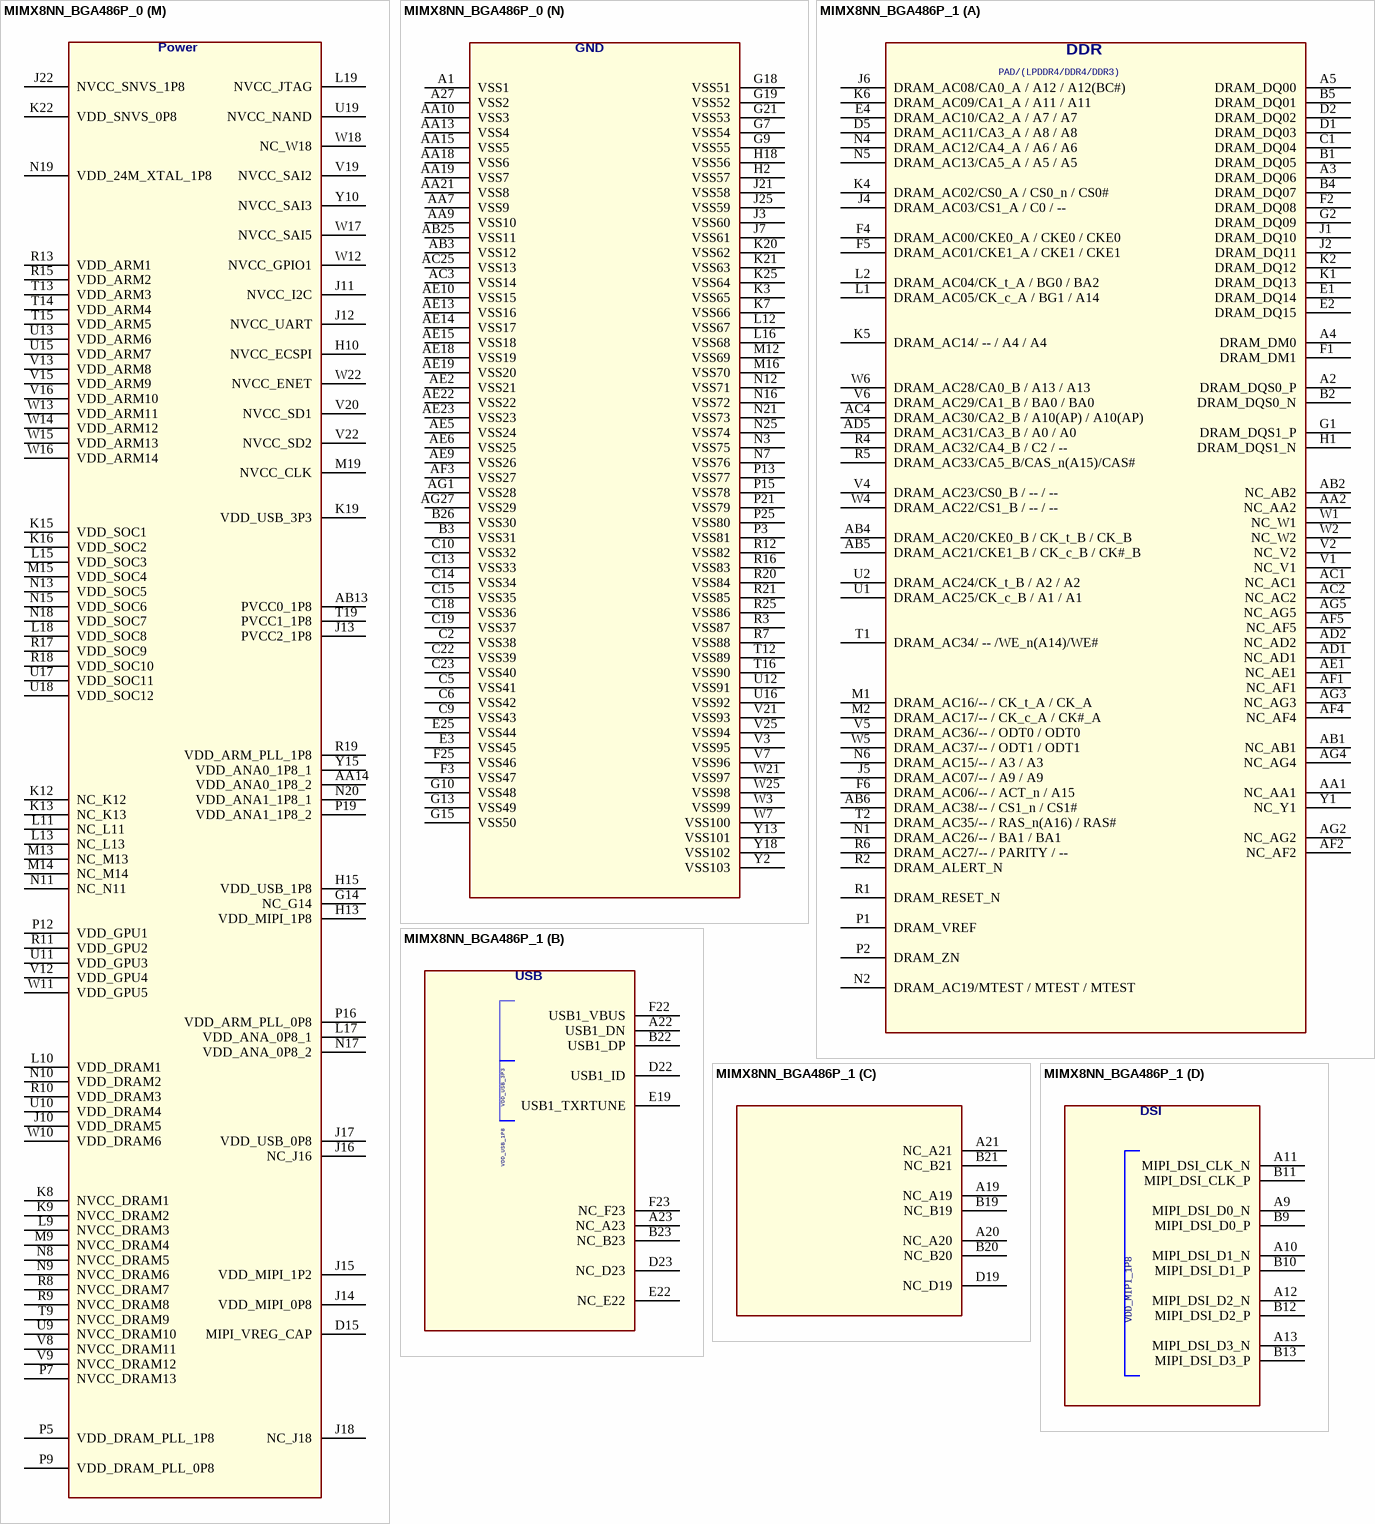
[diagram p7: symbols MIMX8NN_BGA486P_0 to MIMX8NN_BGA486P_1]

## MIMX8NN_BGA486P_0
designator U?
CLASS: IC
part A pins: A2 DRAM_DQS0_P, A3 DRAM_DQ06, A4 DRAM_DM0, A5 DRAM_DQ00, AA1 NC_AA1, AA2 NC_AA2, AB1 NC_AB1, AB2 NC_AB2, AB4 DRAM_AC20, AB5 DRAM_AC21, AB6 DRAM_AC38, AC1 NC_AC1, AC2 NC_AC2, AC4 DRAM_AC30, AD1 NC_AD1, AD2 NC_AD2, AD5 DRAM_AC31, AE1 NC_AE1, AF1 NC_AF1, AF2 NC_AF2, AF4 NC_AF4, AF5 NC_AF5, AG2 NC_AG2, AG3 NC_AG3, AG4 NC_AG4, AG5 NC_AG5, B1 DRAM_DQ05, B2 DRAM_DQS0_N, B4 DRAM_DQ07, B5 DRAM_DQ01, C1 DRAM_DQ04, D1 DRAM_DQ03, D2 DRAM_DQ02, D5 DRAM_AC11, E1 DRAM_DQ14, E2 DRAM_DQ15, E4 DRAM_AC10, F1 DRAM_DM1, F2 DRAM_DQ08, F4 DRAM_AC00, F5 DRAM_AC01, F6 DRAM_AC06, G1 DRAM_DQS1_P, G2 DRAM_DQ09, H1 DRAM_DQS1_N, J1 DRAM_DQ10, J2 DRAM_DQ11, J4 DRAM_AC03, J5 DRAM_AC07, J6 DRAM_AC08, K1 DRAM_DQ13, K2 DRAM_DQ12, K4 DRAM_AC02, K5 DRAM_AC14, K6 DRAM_AC09, L1 DRAM_AC05, L2 DRAM_AC04, M1 DRAM_AC16, M2 DRAM_AC17, N1 DRAM_AC26, N2 DRAM_AC19, N4 DRAM_AC12, N5 DRAM_AC13, N6 DRAM_AC15, P1 DRAM_VREF, P2 DRAM_ZN, R1 DRAM_RESET_N, R2 DRAM_ALERT_N, R4 DRAM_AC32, R5 DRAM_AC33, R6 DRAM_AC27, T1 DRAM_AC34, T2 DRAM_AC35, U1 DRAM_AC25, U2 DRAM_AC24, V1 NC_V1, V2 NC_V2, V4 DRAM_AC23, V5 DRAM_AC36, V6 DRAM_AC29, W1 NC_W1, W2 NC_W2, W4 DRAM_AC22, W5 DRAM_AC37, W6 DRAM_AC28, Y1 NC_Y1
part B pins: A22 USB1_DN, A23 NC_A23, B22 USB1_DP, B23 NC_B23, D22 USB1_ID, D23 NC_D23, E19 USB1_TXRTUNE, E22 NC_E22, F22 USB1_VBUS, F23 NC_F23 (power)
part C pins: A19 NC_A19, A20 NC_A20, A21 NC_A21, B19 NC_B19, B20 NC_B20, B21 NC_B21, D19 NC_D19
part D pins: A9 MIPI_DSI_D0_N, A10 MIPI_DSI_D1_N, A11 MIPI_DSI_CLK_N, A12 MIPI_DSI_D2_N, A13 MIPI_DSI_D3_N, B9 MIPI_DSI_D0_P, B10 MIPI_DSI_D1_P, B11 MIPI_DSI_CLK_P, B12 MIPI_DSI_D2_P, B13 MIPI_DSI_D3_P
part E pins: A14 MIPI_CSI_D0_N, A15 MIPI_CSI_D1_N, A16 MIPI_CSI_CLK_N, A17 MIPI_CSI_D2_N, A18 MIPI_CSI_D3_N, B14 MIPI_CSI_D0_P, B15 MIPI_CSI_D1_P, B16 MIPI_CSI_CLK_P, B17 MIPI_CSI_D2_P, B18 MIPI_CSI_D3_P
part F pins: D9 I2C2_SDA, D10 I2C2_SCL, D13 I2C4_SCL, D18 UART3_TXD, E9 I2C1_SCL, E10 I2C3_SCL, E13 I2C4_SDA, E14 UART1_RXD, E15 UART2_TXD, E18 UART3_RXD, F9 I2C1_SDA, F10 I2C3_SDA, F13 UART1_TXD, F15 UART2_RXD, F18 UART4_TXD, F19 UART4_RXD
part G pins: AB15 SAI5_RXFS, AB18 NC_AB18, AB19 NC_AB19, AB22 SAI2_RXC, AC6 SAI3_TXFS, AC13 SAI5_RXD3, AC14 SAI5_RXD1, AC15 SAI5_RXC, AC18 NC_AC18, AC19 SAI2_RXFS, AC22 SAI2_TXD0, AC24 SAI2_RXD0, AD6 SAI3_MCLK, AD13 SAI5_RXD2, AD15 SAI5_MCLK, AD18 SAI5_RXD0, AD19 SAI2_MCLK, AD22 SAI2_TXC, AD23 SAI2_TXFS, AF6 SAI3_TXD, AF7 SAI3_RXD, AF8 SPDIF_EXT_CLK, AF9 SPDIF_TX, AF15 NC_AF15, AF16 NC_AF16, AF17 NC_AF17, AF18 NC_AF18, AF19 NC_AF19, AF20 NC_AF20, AF21 NC_AF21, AF22 NC_AF22, AF23 NC_AF23, AG6 SAI3_TXC, AG7 SAI3_RXC, AG8 SAI3_RXFS, AG9 SPDIF_RX, AG15 NC_AG15, AG16 NC_AG16, AG17 NC_AG17, AG18 NC_AG18, AG19 NC_AG19, AG20 NC_AG20, AG21 NC_AG21, AG22 NC_AG22, AG23 NC_AG23
part H pins: K23 NAND_DATA02, K24 NAND_DATA01, K26 NAND_DATA06, K27 NAND_CLE, L26 NAND_DATA05, L27 NAND_CE3_B, M26 NAND_DATA04, M27 NAND_CE2_B, N22 NAND_ALE, N23 NAND_DATA03, N24 NAND_CE0_B, N26 NAND_DATA07, N27 NAND_RE_B, P23 NAND_DATA00, P26 NAND_READY_B, P27 NAND_CE1_B, R22 NAND_DQS, R26 NAND_WE_B, R27 NAND_WP_B
part I pins: AA26 SD2_CD_B, AA27 SD2_WP, AB23 SD2_DATA0, AB24 SD2_DATA1, AB26 SD2_RESET_B, R23 SD1_RESET_B, R24 SD1_STROBE, T26 SD1_DATA3, T27 SD1_DATA2, U26 SD1_DATA5, U27 SD1_DATA4, V23 SD2_DATA3, V24 SD2_DATA2, V26 SD1_CLK, V27 SD1_CMD, W23 SD2_CLK, W24 SD2_CMD, W26 SD1_DATA7, W27 SD1_DATA6, Y26 SD1_DATA1, Y27 SD1_DATA0
part J pins: AB27 ENET_MDIO, AC26 ENET_RD3, AC27 ENET_MDC, AD26 ENET_RD2, AD27 ENET_RD1, AE26 ENET_RXC, AE27 ENET_RD0, AF24 ENET_TX_CTL, AF25 ENET_TD3, AF26 ENET_TD1, AF27 ENET_RX_CTL, AG24 ENET_TXC, AG25 ENET_TD2, AG26 ENET_TD0
part K pins: A6 ECSPI2_SS0, A7 ECSPI1_MISO, A8 ECSPI2_MISO, AB9 GPIO1_IO15, AB10 GPIO1_IO12, AC9 GPIO1_IO14, AC10 GPIO1_IO11, AD9 GPIO1_IO13, AD10 GPIO1_IO10, AF10 GPIO1_IO09, AF11 GPIO1_IO07, AF12 GPIO1_IO05, AF13 GPIO1_IO03, AF14 GPIO1_IO01, AG10 GPIO1_IO08, AG11 GPIO1_IO06, AG12 GPIO1_IO04, AG13 GPIO1_IO02, AG14 GPIO1_IO00, B6 ECSPI1_SS0, B7 ECSPI1_MOSI, B8 ECSPI2_MOSI, D6 ECSPI1_SCLK, E6 ECSPI2_SCLK
part L pins: A24 PMIC_ON_REQ, A25 ONOFF, A26 RTC_XTALI, B24 POR_B, B25 RTC_XTALO, B27 24M_XTALI, C26 24M_XTALO, C27 BOOT_MODE2, D26 BOOT_MODE3, D27 JTAG_MOD, E24 PMIC_STBY_REQ, E26 JTAG_TDO, E27 JTAG_TDI, F24 RTC_RESET_B, F26 JTAG_TCK, F27 JTAG_TMS, G26 BOOT_MODE0, G27 BOOT_MODE1, H26 CLKOUT1, H27 CLKIN1, J23 TSENSOR_TEST_OUT, J24 TSENSOR_RES_EXT, J26 CLKOUT2, J27 CLKIN2
part M pins: AA14 VDD_ANA0_1P8_2 (power), AB13 PVCC0_1P8 (power), D15 MIPI_VREG_CAP, G14 NC_G14 (power), H10 NVCC_ECSPI (power), H13 VDD_MIPI_1P8 (power), H15 VDD_USB_1P8 (power), J10 VDD_DRAM5 (power), J11 NVCC_I2C (power), J12 NVCC_UART (power), J13 PVCC2_1P8 (power), J14 VDD_MIPI_0P8 (power), J15 VDD_MIPI_1P2 (power), J16 NC_J16 (power), J17 VDD_USB_0P8 (power), J18 NC_J18 (power), J22 NVCC_SNVS_1P8 (power), K8 NVCC_DRAM1 (power), K9 NVCC_DRAM2 (power), K12 NC_K12 (power), K13 NC_K13 (power), K15 VDD_SOC1 (power), K16 VDD_SOC2 (power), K19 VDD_USB_3P3 (power), K22 VDD_SNVS_0P8 (power), L9 NVCC_DRAM3 (power), L10 VDD_DRAM1 (power), L11 NC_L11 (power), L13 NC_L13 (power), L15 VDD_SOC3 (power), L17 VDD_ANA_0P8_1 (power), L18 VDD_SOC8 (power), L19 NVCC_JTAG (power), M9 NVCC_DRAM4 (power), M13 NC_M13 (power), M14 NC_M14 (power), M15 VDD_SOC4 (power), M19 NVCC_CLK (power), N8 NVCC_DRAM5 (power), N9 NVCC_DRAM6 (power), N10 VDD_DRAM2 (power), N11 NC_N11 (power), N13 VDD_SOC5 (power), N15 VDD_SOC6 (power), N17 VDD_ANA_0P8_2 (power), N18 VDD_SOC7 (power), N19 VDD_24M_XTAL_1P8 (power), N20 VDD_ANA1_1P8_1 (power), P5 VDD_DRAM_PLL_1P8 (power), P7 NVCC_DRAM13, P9 VDD_DRAM_PLL_0P8 (power), P12 VDD_GPU1 (power), P16 VDD_ARM_PLL_0P8 (power), P19 VDD_ANA1_1P8_2 (power), R8 NVCC_DRAM7 (power), R9 NVCC_DRAM8 (power), R10 VDD_DRAM3 (power), R11 VDD_GPU2 (power), R13 VDD_ARM1 (power), R15 VDD_ARM2 (power), R17 VDD_SOC9 (power), R18 VDD_SOC10 (power), R19 VDD_ARM_PLL_1P8 (power), T9 NVCC_DRAM9 (power), T13 VDD_ARM3 (power), T14 VDD_ARM4 (power), T15 VDD_ARM5 (power), T19 PVCC1_1P8 (power), U9 NVCC_DRAM10 (power), U10 VDD_DRAM4 (power), U11 VDD_GPU3 (power), U13 VDD_ARM6 (power), U15 VDD_ARM7 (power), U17 VDD_SOC11 (power), U18 VDD_SOC12 (power), U19 NVCC_NAND (power), V8 NVCC_DRAM11 (power), V9 NVCC_DRAM12 (power), V12 VDD_GPU4 (power), V13 VDD_ARM8 (power), V15 VDD_ARM9 (power), V16 VDD_ARM10 (power), V19 NVCC_SAI2 (power), V20 NVCC_SD1 (power), V22 NVCC_SD2 (power), W10 VDD_DRAM6 (power), W11 VDD_GPU5 (power), W12 NVCC_GPIO1 (power), W13 VDD_ARM11 (power), W14 VDD_ARM12 (power), W15 VDD_ARM13 (power), W16 VDD_ARM14 (power), W17 NVCC_SAI5 (power), W18 NC_W18 (power), W22 NVCC_ENET (power), Y10 NVCC_SAI3 (power), Y15 VDD_ANA0_1P8_1 (power)
part N pins: A1 VSS1 (power), A27 VSS2 (power), AA7 VSS9 (power), AA9 VSS10 (power), AA10 VSS3 (power), AA13 VSS4 (power), AA15 VSS5 (power), AA18 VSS6 (power), AA19 VSS7 (power), AA21 VSS8 (power), AB3 VSS12 (power), AB25 VSS11 (power), AC3 VSS14 (power), AC25 VSS13 (power), AE2 VSS21 (power), AE5 VSS24 (power), AE6 VSS25 (power), AE9 VSS26 (power), AE10 VSS15 (power), AE13 VSS16 (power), AE14 VSS17 (power), AE15 VSS18 (power), AE18 VSS19 (power), AE19 VSS20 (power), AE22 VSS22 (power), AE23 VSS23 (power), AF3 VSS27 (power), AG1 VSS28 (power), AG27 VSS29 (power), B3 VSS31 (power), B26 VSS30 (power), C2 VSS38 (power), C5 VSS41 (power), C6 VSS42 (power), C9 VSS43 (power), C10 VSS32 (power), C13 VSS33 (power), C14 VSS34 (power), C15 VSS35 (power), C18 VSS36 (power), C19 VSS37 (power), C22 VSS39 (power), C23 VSS40 (power), E3 VSS45 (power), E25 VSS44 (power), F3 VSS47 (power), F25 VSS46 (power), G7 VSS54 (power), G9 VSS55 (power), G10 VSS48 (power), G13 VSS49 (power), G15 VSS50 (power), G18 VSS51 (power), G19 VSS52 (power), G21 VSS53 (power), H2 VSS57 (power), H18 VSS56 (power), J3 VSS60 (power), J7 VSS61 (power), J21 VSS58 (power), J25 VSS59 (power), K3 VSS65 (power), K7 VSS66 (power), K20 VSS62 (power), K21 VSS63 (power), K25 VSS64 (power), L12 VSS67 (power), L16 VSS68 (power), M12 VSS69 (power), M16 VSS70 (power), N3 VSS75 (power), N7 VSS76 (power), N12 VSS71 (power), N16 VSS72 (power), N21 VSS73 (power), N25 VSS74 (power), P3 VSS81 (power), P13 VSS77 (power), P15 VSS78 (power), P21 VSS79 (power), P25 VSS80 (power), R3 VSS87 (power), R7 VSS88 (power), R12 VSS82 (power), R16 VSS83 (power), R20 VSS84 (power), R21 VSS85 (power), R25 VSS86 (power), T12 VSS89 (power), T16 VSS90 (power), U12 VSS91 (power), U16 VSS92 (power), V3 VSS95 (power), V7 VSS96 (power), V21 VSS93 (power), V25 VSS94 (power), W3 VSS99 (power), W7 VSS100 (power), W21 VSS97 (power), W25 VSS98 (power), Y2 VSS103 (power), Y13 VSS101 (power), Y18 VSS102 (power)
part A text: DDR; PAD/(LPDDR4/DDR4/DDR3)
part B text: USB
part D text: DSI
part E text: CSI
part F text: UART&I2C
part G text: SAI
part H text: NAND
part I text: SDHC
part J text: eNET
part K text: SPI&GPIO
part L text: MISC; VDD_ANA1_1P8
part M text: Power
part N text: GND

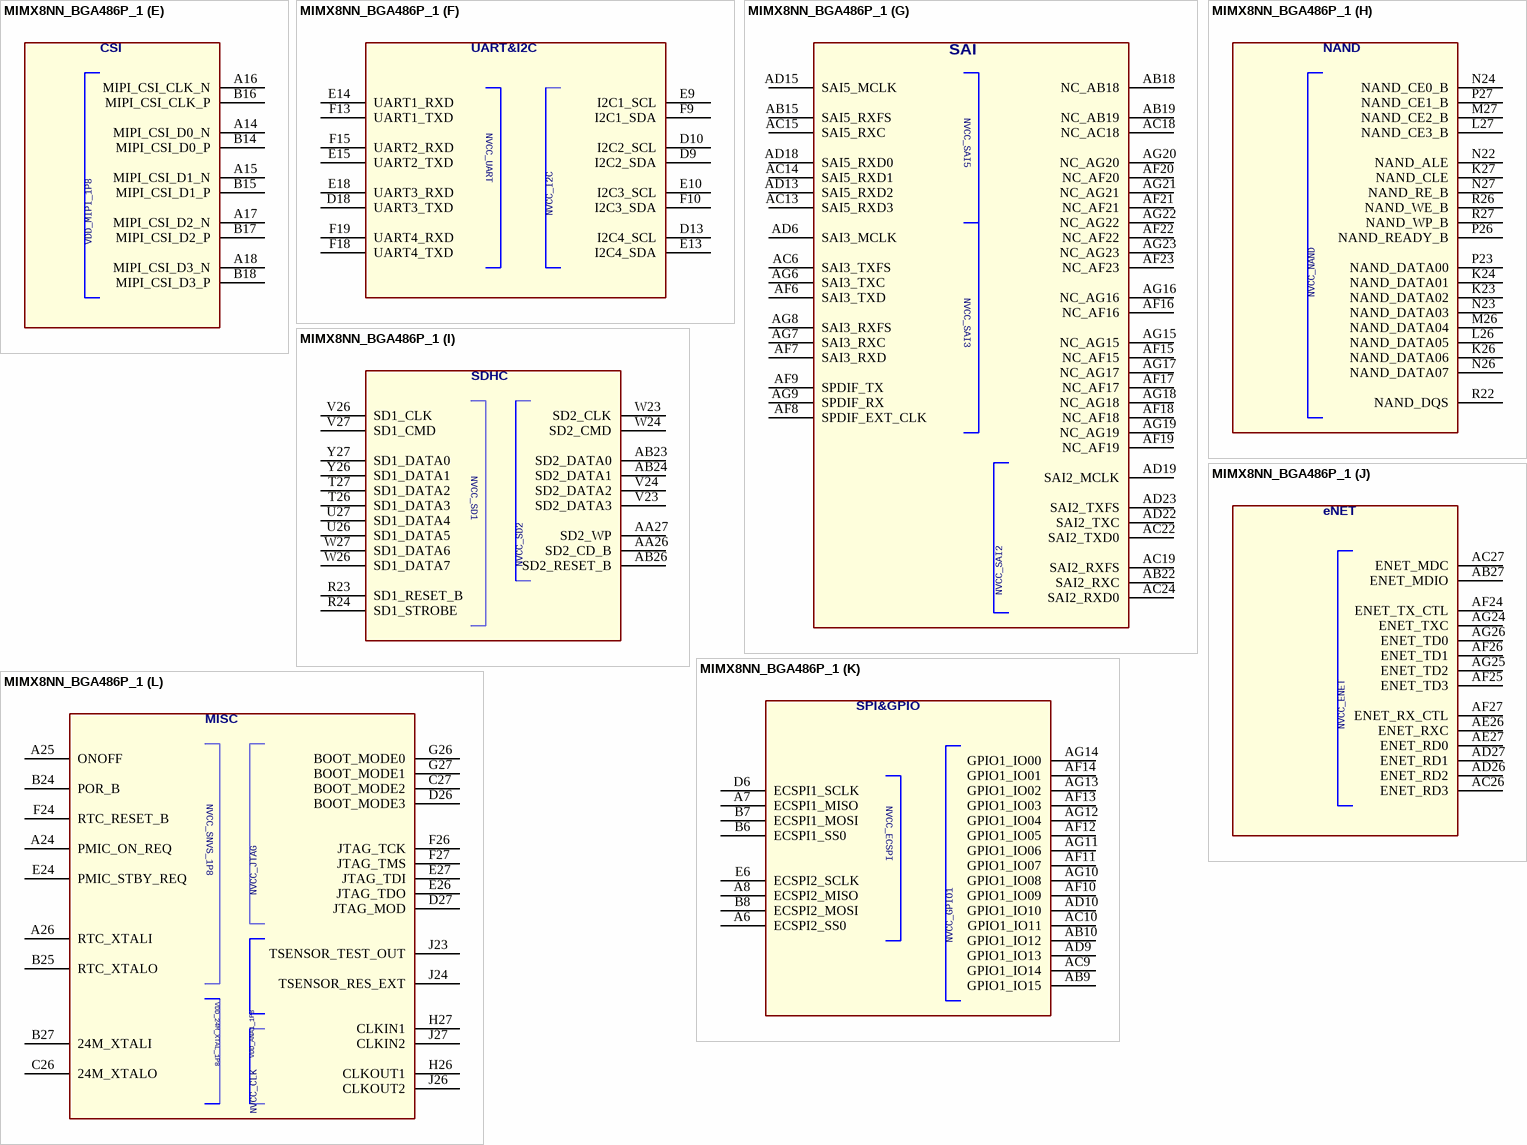
[diagram p8: symbol MIMX8NN_BGA486P_1]

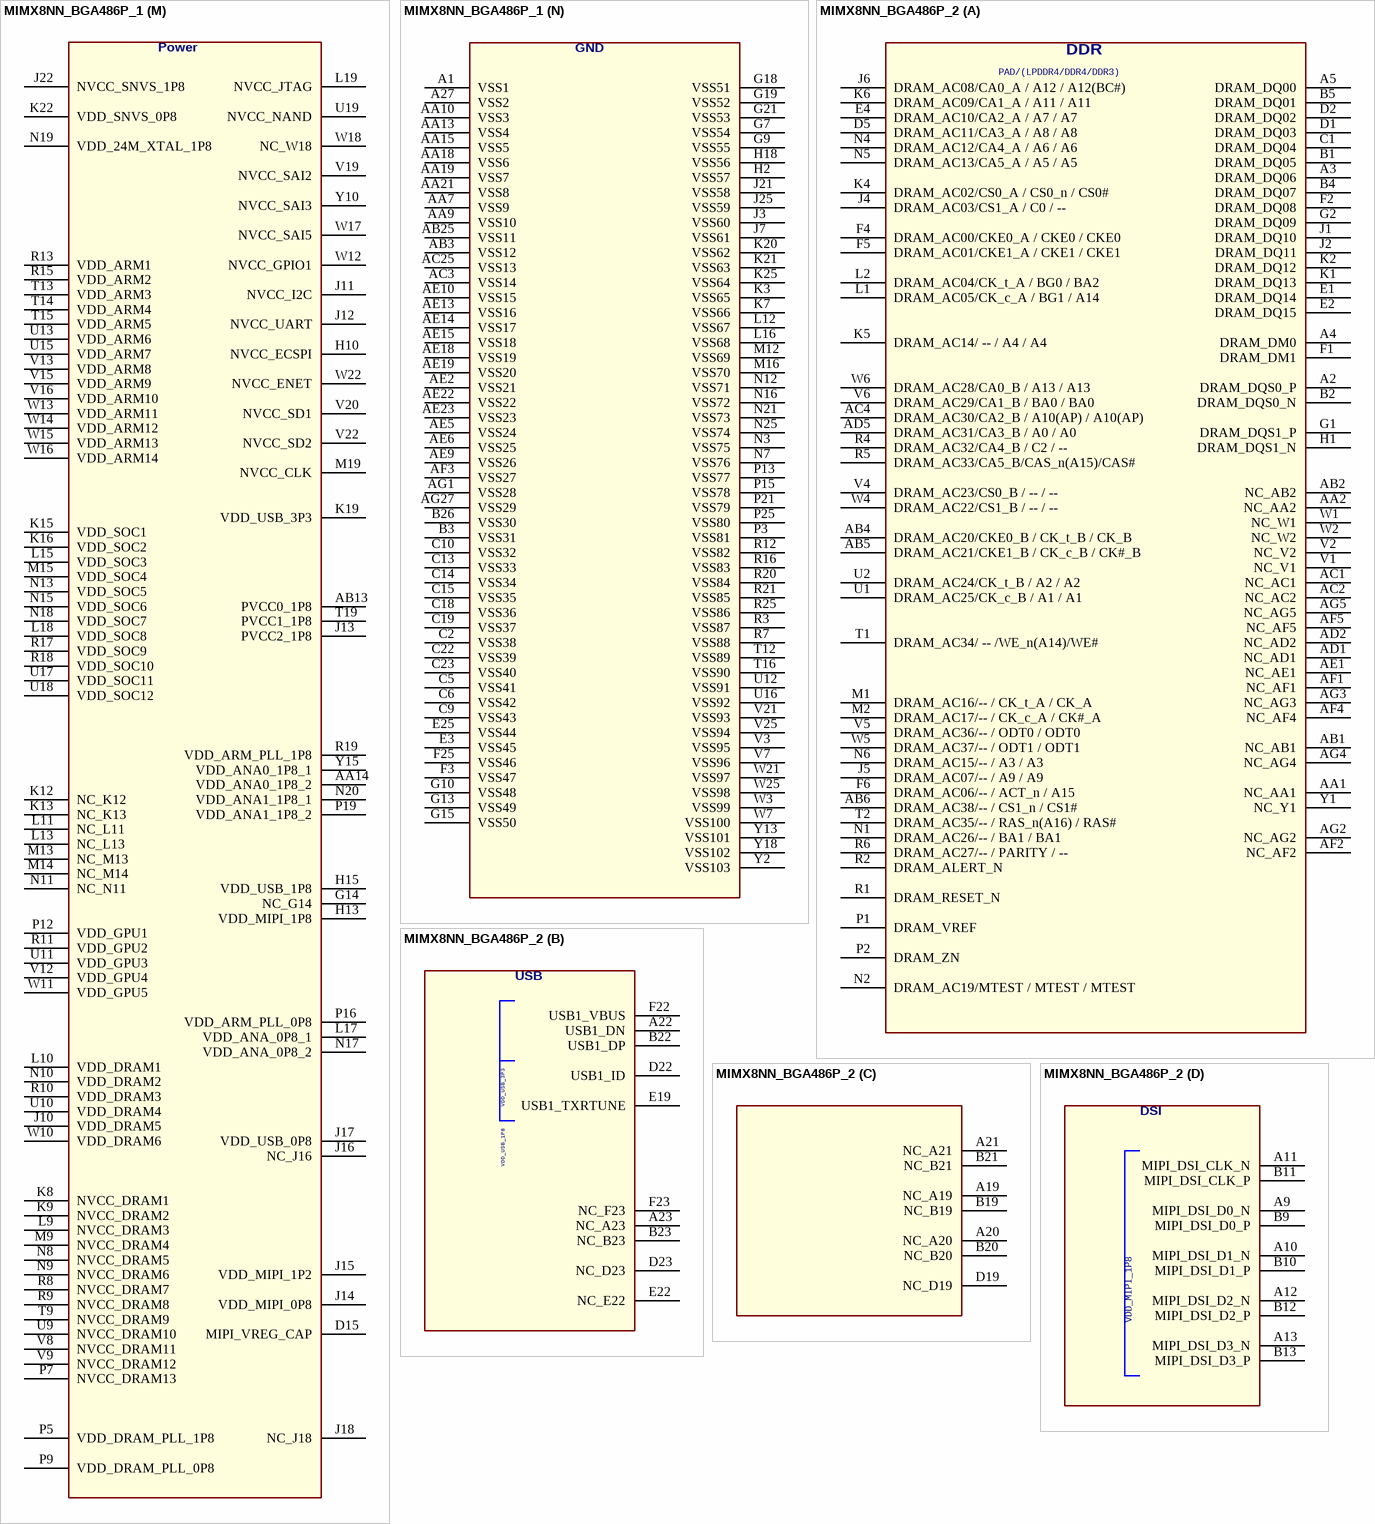
[diagram p9: symbols MIMX8NN_BGA486P_1 to MIMX8NN_BGA486P_2]

## MIMX8NN_BGA486P_1
designator U?
CLASS: IC
part A pins: A2 DRAM_DQS0_P, A3 DRAM_DQ06, A4 DRAM_DM0, A5 DRAM_DQ00, AA1 NC_AA1, AA2 NC_AA2, AB1 NC_AB1, AB2 NC_AB2, AB4 DRAM_AC20/CKE0_B / CK_t_B / CK_B, AB5 DRAM_AC21/CKE1_B / CK_c_B / CK#_B, AB6 DRAM_AC38/-- / CS1_n / CS1#, AC1 NC_AC1, AC2 NC_AC2, AC4 DRAM_AC30/CA2_B / A10(AP) / A10(AP), AD1 NC_AD1, AD2 NC_AD2, AD5 DRAM_AC31/CA3_B / A0 / A0, AE1 NC_AE1, AF1 NC_AF1, AF2 NC_AF2, AF4 NC_AF4, AF5 NC_AF5, AG2 NC_AG2, AG3 NC_AG3, AG4 NC_AG4, AG5 NC_AG5, B1 DRAM_DQ05, B2 DRAM_DQS0_N, B4 DRAM_DQ07, B5 DRAM_DQ01, C1 DRAM_DQ04, D1 DRAM_DQ03, D2 DRAM_DQ02, D5 DRAM_AC11/CA3_A / A8 / A8, E1 DRAM_DQ14, E2 DRAM_DQ15, E4 DRAM_AC10/CA2_A / A7 / A7, F1 DRAM_DM1, F2 DRAM_DQ08, F4 DRAM_AC00/CKE0_A / CKE0 / CKE0, F5 DRAM_AC01/CKE1_A / CKE1 / CKE1, F6 DRAM_AC06/-- / ACT_n / A15, G1 DRAM_DQS1_P, G2 DRAM_DQ09, H1 DRAM_DQS1_N, J1 DRAM_DQ10, J2 DRAM_DQ11, J4 DRAM_AC03/CS1_A / C0 / --, J5 DRAM_AC07/-- / A9 / A9, J6 DRAM_AC08/CA0_A / A12 / A12(BC#), K1 DRAM_DQ13, K2 DRAM_DQ12, K4 DRAM_AC02/CS0_A / CS0_n / CS0#, K5 DRAM_AC14/ -- / A4 / A4, K6 DRAM_AC09/CA1_A / A11 / A11, L1 DRAM_AC05/CK_c_A / BG1 / A14, L2 DRAM_AC04/CK_t_A / BG0 / BA2, M1 DRAM_AC16/-- / CK_t_A / CK_A, M2 DRAM_AC17/-- / CK_c_A / CK#_A, N1 DRAM_AC26/-- / BA1 / BA1, N2 DRAM_AC19/MTEST / MTEST / MTEST, N4 DRAM_AC12/CA4_A / A6 / A6, N5 DRAM_AC13/CA5_A / A5 / A5, N6 DRAM_AC15/-- / A3 / A3, P1 DRAM_VREF, P2 DRAM_ZN, R1 DRAM_RESET_N, R2 DRAM_ALERT_N, R4 DRAM_AC32/CA4_B / C2 / --, R5 DRAM_AC33/CA5_B/CAS_n(A15)/CAS#, R6 DRAM_AC27/-- / PARITY / --, T1 DRAM_AC34/ -- /WE_n(A14)/WE#, T2 DRAM_AC35/-- / RAS_n(A16) / RAS#, U1 DRAM_AC25/CK_c_B / A1 / A1, U2 DRAM_AC24/CK_t_B / A2 / A2, V1 NC_V1, V2 NC_V2, V4 DRAM_AC23/CS0_B / -- / --, V5 DRAM_AC36/-- / ODT0 / ODT0, V6 DRAM_AC29/CA1_B / BA0 / BA0, W1 NC_W1, W2 NC_W2, W4 DRAM_AC22/CS1_B / -- / --, W5 DRAM_AC37/-- / ODT1 / ODT1, W6 DRAM_AC28/CA0_B / A13 / A13, Y1 NC_Y1
part B pins: A22 USB1_DN, A23 NC_A23, B22 USB1_DP, B23 NC_B23, D22 USB1_ID, D23 NC_D23, E19 USB1_TXRTUNE, E22 NC_E22, F22 USB1_VBUS, F23 NC_F23 (power)
part C pins: A19 NC_A19, A20 NC_A20, A21 NC_A21, B19 NC_B19, B20 NC_B20, B21 NC_B21, D19 NC_D19
part D pins: A9 MIPI_DSI_D0_N, A10 MIPI_DSI_D1_N, A11 MIPI_DSI_CLK_N, A12 MIPI_DSI_D2_N, A13 MIPI_DSI_D3_N, B9 MIPI_DSI_D0_P, B10 MIPI_DSI_D1_P, B11 MIPI_DSI_CLK_P, B12 MIPI_DSI_D2_P, B13 MIPI_DSI_D3_P
part E pins: A14 MIPI_CSI_D0_N, A15 MIPI_CSI_D1_N, A16 MIPI_CSI_CLK_N, A17 MIPI_CSI_D2_N, A18 MIPI_CSI_D3_N, B14 MIPI_CSI_D0_P, B15 MIPI_CSI_D1_P, B16 MIPI_CSI_CLK_P, B17 MIPI_CSI_D2_P, B18 MIPI_CSI_D3_P
part F pins: D9 I2C2_SDA, D10 I2C2_SCL, D13 I2C4_SCL, D18 UART3_TXD, E9 I2C1_SCL, E10 I2C3_SCL, E13 I2C4_SDA, E14 UART1_RXD, E15 UART2_TXD, E18 UART3_RXD, F9 I2C1_SDA, F10 I2C3_SDA, F13 UART1_TXD, F15 UART2_RXD, F18 UART4_TXD, F19 UART4_RXD
part G pins: AB15 SAI5_RXFS, AB18 NC_AB18, AB19 NC_AB19, AB22 SAI2_RXC, AC6 SAI3_TXFS, AC13 SAI5_RXD3, AC14 SAI5_RXD1, AC15 SAI5_RXC, AC18 NC_AC18, AC19 SAI2_RXFS, AC22 SAI2_TXD0, AC24 SAI2_RXD0, AD6 SAI3_MCLK, AD13 SAI5_RXD2, AD15 SAI5_MCLK, AD18 SAI5_RXD0, AD19 SAI2_MCLK, AD22 SAI2_TXC, AD23 SAI2_TXFS, AF6 SAI3_TXD, AF7 SAI3_RXD, AF8 SPDIF_EXT_CLK, AF9 SPDIF_TX, AF15 NC_AF15, AF16 NC_AF16, AF17 NC_AF17, AF18 NC_AF18, AF19 NC_AF19, AF20 NC_AF20, AF21 NC_AF21, AF22 NC_AF22, AF23 NC_AF23, AG6 SAI3_TXC, AG7 SAI3_RXC, AG8 SAI3_RXFS, AG9 SPDIF_RX, AG15 NC_AG15, AG16 NC_AG16, AG17 NC_AG17, AG18 NC_AG18, AG19 NC_AG19, AG20 NC_AG20, AG21 NC_AG21, AG22 NC_AG22, AG23 NC_AG23
part H pins: K23 NAND_DATA02, K24 NAND_DATA01, K26 NAND_DATA06, K27 NAND_CLE, L26 NAND_DATA05, L27 NAND_CE3_B, M26 NAND_DATA04, M27 NAND_CE2_B, N22 NAND_ALE, N23 NAND_DATA03, N24 NAND_CE0_B, N26 NAND_DATA07, N27 NAND_RE_B, P23 NAND_DATA00, P26 NAND_READY_B, P27 NAND_CE1_B, R22 NAND_DQS, R26 NAND_WE_B, R27 NAND_WP_B
part I pins: AA26 SD2_CD_B, AA27 SD2_WP, AB23 SD2_DATA0, AB24 SD2_DATA1, AB26 SD2_RESET_B, R23 SD1_RESET_B, R24 SD1_STROBE, T26 SD1_DATA3, T27 SD1_DATA2, U26 SD1_DATA5, U27 SD1_DATA4, V23 SD2_DATA3, V24 SD2_DATA2, V26 SD1_CLK, V27 SD1_CMD, W23 SD2_CLK, W24 SD2_CMD, W26 SD1_DATA7, W27 SD1_DATA6, Y26 SD1_DATA1, Y27 SD1_DATA0
part J pins: AB27 ENET_MDIO, AC26 ENET_RD3, AC27 ENET_MDC, AD26 ENET_RD2, AD27 ENET_RD1, AE26 ENET_RXC, AE27 ENET_RD0, AF24 ENET_TX_CTL, AF25 ENET_TD3, AF26 ENET_TD1, AF27 ENET_RX_CTL, AG24 ENET_TXC, AG25 ENET_TD2, AG26 ENET_TD0
part K pins: A6 ECSPI2_SS0, A7 ECSPI1_MISO, A8 ECSPI2_MISO, AB9 GPIO1_IO15, AB10 GPIO1_IO12, AC9 GPIO1_IO14, AC10 GPIO1_IO11, AD9 GPIO1_IO13, AD10 GPIO1_IO10, AF10 GPIO1_IO09, AF11 GPIO1_IO07, AF12 GPIO1_IO05, AF13 GPIO1_IO03, AF14 GPIO1_IO01, AG10 GPIO1_IO08, AG11 GPIO1_IO06, AG12 GPIO1_IO04, AG13 GPIO1_IO02, AG14 GPIO1_IO00, B6 ECSPI1_SS0, B7 ECSPI1_MOSI, B8 ECSPI2_MOSI, D6 ECSPI1_SCLK, E6 ECSPI2_SCLK
part L pins: A24 PMIC_ON_REQ, A25 ONOFF, A26 RTC_XTALI, B24 POR_B, B25 RTC_XTALO, B27 24M_XTALI, C26 24M_XTALO, C27 BOOT_MODE2, D26 BOOT_MODE3, D27 JTAG_MOD, E24 PMIC_STBY_REQ, E26 JTAG_TDO, E27 JTAG_TDI, F24 RTC_RESET_B, F26 JTAG_TCK, F27 JTAG_TMS, G26 BOOT_MODE0, G27 BOOT_MODE1, H26 CLKOUT1, H27 CLKIN1, J23 TSENSOR_TEST_OUT, J24 TSENSOR_RES_EXT, J26 CLKOUT2, J27 CLKIN2
part M pins: AA14 VDD_ANA0_1P8_2 (power), AB13 PVCC0_1P8 (power), D15 MIPI_VREG_CAP, G14 NC_G14 (power), H10 NVCC_ECSPI (power), H13 VDD_MIPI_1P8 (power), H15 VDD_USB_1P8 (power), J10 VDD_DRAM5 (power), J11 NVCC_I2C (power), J12 NVCC_UART (power), J13 PVCC2_1P8 (power), J14 VDD_MIPI_0P8 (power), J15 VDD_MIPI_1P2 (power), J16 NC_J16 (power), J17 VDD_USB_0P8 (power), J18 NC_J18 (power), J22 NVCC_SNVS_1P8 (power), K8 NVCC_DRAM1 (power), K9 NVCC_DRAM2 (power), K12 NC_K12 (power), K13 NC_K13 (power), K15 VDD_SOC1 (power), K16 VDD_SOC2 (power), K19 VDD_USB_3P3 (power), K22 VDD_SNVS_0P8 (power), L9 NVCC_DRAM3 (power), L10 VDD_DRAM1 (power), L11 NC_L11 (power), L13 NC_L13 (power), L15 VDD_SOC3 (power), L17 VDD_ANA_0P8_1 (power), L18 VDD_SOC8 (power), L19 NVCC_JTAG (power), M9 NVCC_DRAM4 (power), M13 NC_M13 (power), M14 NC_M14 (power), M15 VDD_SOC4 (power), M19 NVCC_CLK (power), N8 NVCC_DRAM5 (power), N9 NVCC_DRAM6 (power), N10 VDD_DRAM2 (power), N11 NC_N11 (power), N13 VDD_SOC5 (power), N15 VDD_SOC6 (power), N17 VDD_ANA_0P8_2 (power), N18 VDD_SOC7 (power), N19 VDD_24M_XTAL_1P8 (power), N20 VDD_ANA1_1P8_1 (power), P5 VDD_DRAM_PLL_1P8 (power), P7 NVCC_DRAM13, P9 VDD_DRAM_PLL_0P8 (power), P12 VDD_GPU1 (power), P16 VDD_ARM_PLL_0P8 (power), P19 VDD_ANA1_1P8_2 (power), R8 NVCC_DRAM7 (power), R9 NVCC_DRAM8 (power), R10 VDD_DRAM3 (power), R11 VDD_GPU2 (power), R13 VDD_ARM1 (power), R15 VDD_ARM2 (power), R17 VDD_SOC9 (power), R18 VDD_SOC10 (power), R19 VDD_ARM_PLL_1P8 (power), T9 NVCC_DRAM9 (power), T13 VDD_ARM3 (power), T14 VDD_ARM4 (power), T15 VDD_ARM5 (power), T19 PVCC1_1P8 (power), U9 NVCC_DRAM10 (power), U10 VDD_DRAM4 (power), U11 VDD_GPU3 (power), U13 VDD_ARM6 (power), U15 VDD_ARM7 (power), U17 VDD_SOC11 (power), U18 VDD_SOC12 (power), U19 NVCC_NAND (power), V8 NVCC_DRAM11 (power), V9 NVCC_DRAM12 (power), V12 VDD_GPU4 (power), V13 VDD_ARM8 (power), V15 VDD_ARM9 (power), V16 VDD_ARM10 (power), V19 NVCC_SAI2 (power), V20 NVCC_SD1 (power), V22 NVCC_SD2 (power), W10 VDD_DRAM6 (power), W11 VDD_GPU5 (power), W12 NVCC_GPIO1 (power), W13 VDD_ARM11 (power), W14 VDD_ARM12 (power), W15 VDD_ARM13 (power), W16 VDD_ARM14 (power), W17 NVCC_SAI5 (power), W18 NC_W18 (power), W22 NVCC_ENET (power), Y10 NVCC_SAI3 (power), Y15 VDD_ANA0_1P8_1 (power)
part N pins: A1 VSS1 (power), A27 VSS2 (power), AA7 VSS9 (power), AA9 VSS10 (power), AA10 VSS3 (power), AA13 VSS4 (power), AA15 VSS5 (power), AA18 VSS6 (power), AA19 VSS7 (power), AA21 VSS8 (power), AB3 VSS12 (power), AB25 VSS11 (power), AC3 VSS14 (power), AC25 VSS13 (power), AE2 VSS21 (power), AE5 VSS24 (power), AE6 VSS25 (power), AE9 VSS26 (power), AE10 VSS15 (power), AE13 VSS16 (power), AE14 VSS17 (power), AE15 VSS18 (power), AE18 VSS19 (power), AE19 VSS20 (power), AE22 VSS22 (power), AE23 VSS23 (power), AF3 VSS27 (power), AG1 VSS28 (power), AG27 VSS29 (power), B3 VSS31 (power), B26 VSS30 (power), C2 VSS38 (power), C5 VSS41 (power), C6 VSS42 (power), C9 VSS43 (power), C10 VSS32 (power), C13 VSS33 (power), C14 VSS34 (power), C15 VSS35 (power), C18 VSS36 (power), C19 VSS37 (power), C22 VSS39 (power), C23 VSS40 (power), E3 VSS45 (power), E25 VSS44 (power), F3 VSS47 (power), F25 VSS46 (power), G7 VSS54 (power), G9 VSS55 (power), G10 VSS48 (power), G13 VSS49 (power), G15 VSS50 (power), G18 VSS51 (power), G19 VSS52 (power), G21 VSS53 (power), H2 VSS57 (power), H18 VSS56 (power), J3 VSS60 (power), J7 VSS61 (power), J21 VSS58 (power), J25 VSS59 (power), K3 VSS65 (power), K7 VSS66 (power), K20 VSS62 (power), K21 VSS63 (power), K25 VSS64 (power), L12 VSS67 (power), L16 VSS68 (power), M12 VSS69 (power), M16 VSS70 (power), N3 VSS75 (power), N7 VSS76 (power), N12 VSS71 (power), N16 VSS72 (power), N21 VSS73 (power), N25 VSS74 (power), P3 VSS81 (power), P13 VSS77 (power), P15 VSS78 (power), P21 VSS79 (power), P25 VSS80 (power), R3 VSS87 (power), R7 VSS88 (power), R12 VSS82 (power), R16 VSS83 (power), R20 VSS84 (power), R21 VSS85 (power), R25 VSS86 (power), T12 VSS89 (power), T16 VSS90 (power), U12 VSS91 (power), U16 VSS92 (power), V3 VSS95 (power), V7 VSS96 (power), V21 VSS93 (power), V25 VSS94 (power), W3 VSS99 (power), W7 VSS100 (power), W21 VSS97 (power), W25 VSS98 (power), Y2 VSS103 (power), Y13 VSS101 (power), Y18 VSS102 (power)
part A text: DDR; PAD/(LPDDR4/DDR4/DDR3)
part B text: USB
part D text: DSI
part E text: CSI
part F text: UART&I2C
part G text: SAI
part H text: NAND
part I text: SDHC
part J text: eNET
part K text: SPI&GPIO
part L text: MISC; VDD_ANA1_1P8
part M text: Power
part N text: GND

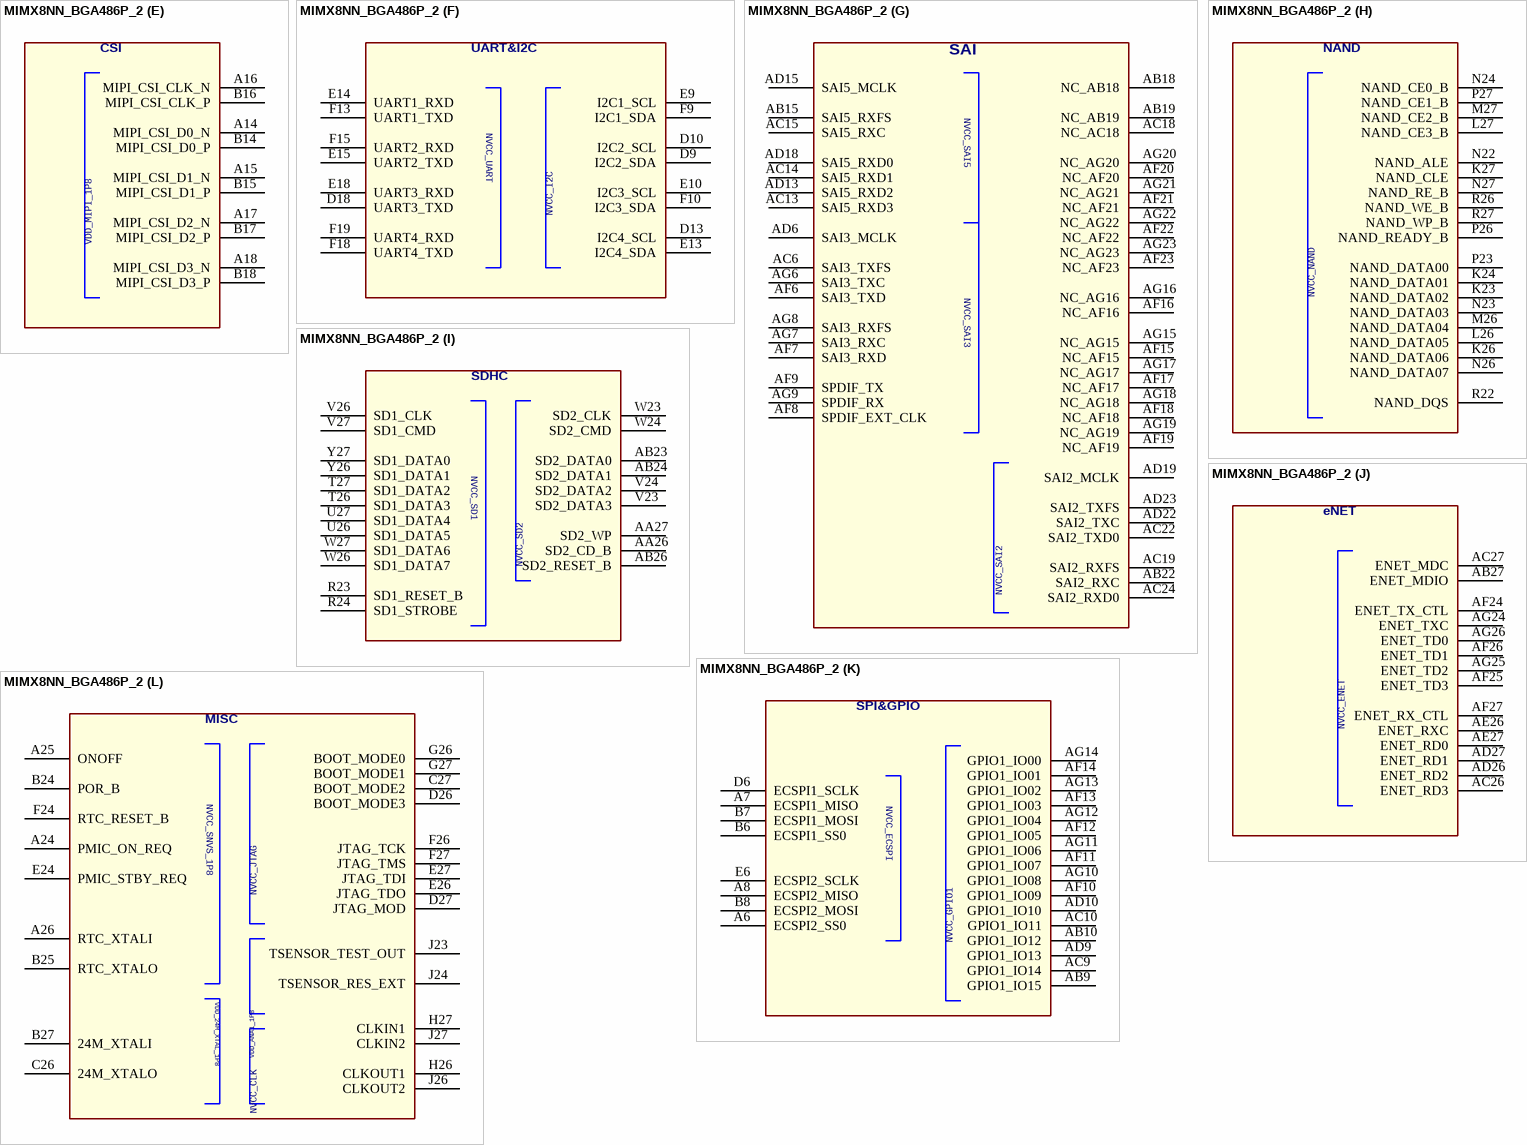
[diagram p10: symbol MIMX8NN_BGA486P_2]

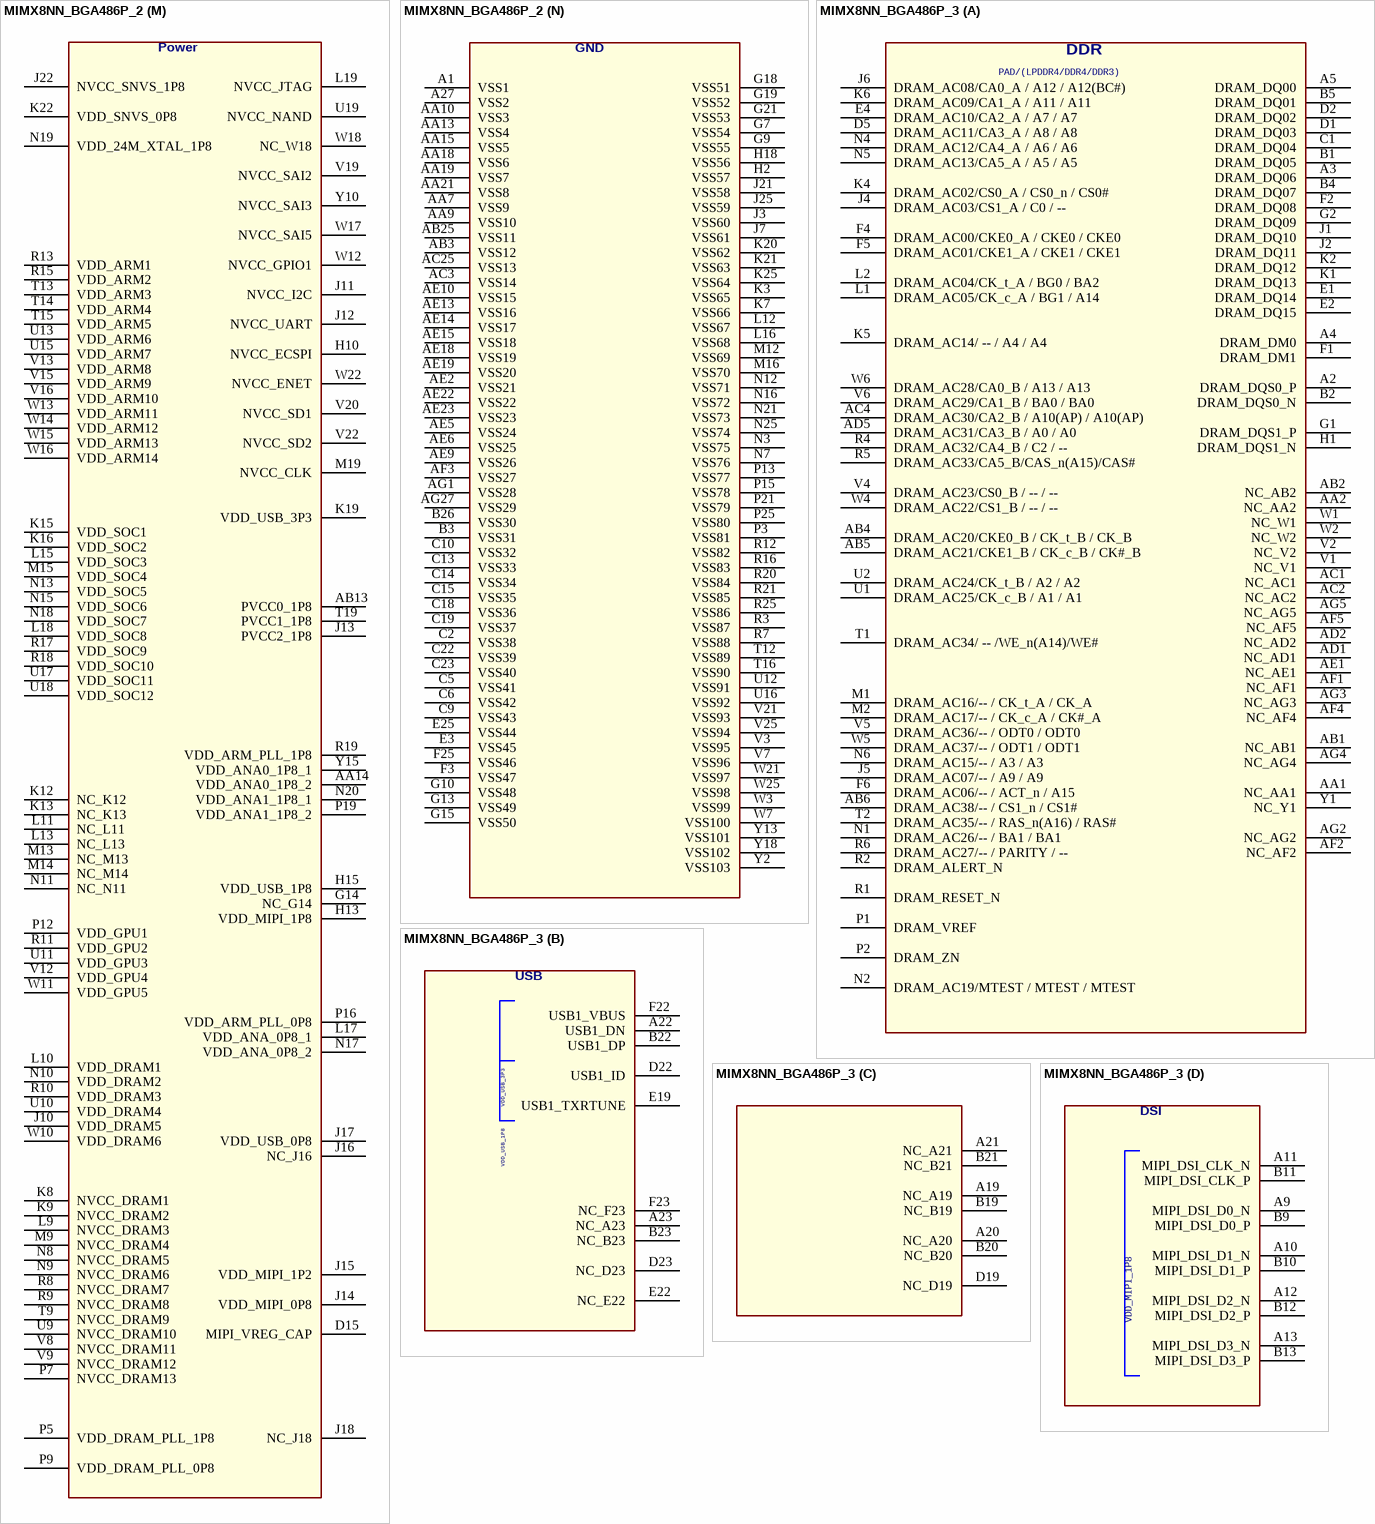
[diagram p11: symbols MIMX8NN_BGA486P_2 to MIMX8NN_BGA486P_3]

## MIMX8NN_BGA486P_2
designator U?
CLASS: IC
part A pins: A2 DRAM_DQS0_P, A3 DRAM_DQ06, A4 DRAM_DM0, A5 DRAM_DQ00, AA1 NC_AA1, AA2 NC_AA2, AB1 NC_AB1, AB2 NC_AB2, AB4 DRAM_AC20/CKE0_B / CK_t_B / CK_B, AB5 DRAM_AC21/CKE1_B / CK_c_B / CK#_B, AB6 DRAM_AC38/-- / CS1_n / CS1#, AC1 NC_AC1, AC2 NC_AC2, AC4 DRAM_AC30/CA2_B / A10(AP) / A10(AP), AD1 NC_AD1, AD2 NC_AD2, AD5 DRAM_AC31/CA3_B / A0 / A0, AE1 NC_AE1, AF1 NC_AF1, AF2 NC_AF2, AF4 NC_AF4, AF5 NC_AF5, AG2 NC_AG2, AG3 NC_AG3, AG4 NC_AG4, AG5 NC_AG5, B1 DRAM_DQ05, B2 DRAM_DQS0_N, B4 DRAM_DQ07, B5 DRAM_DQ01, C1 DRAM_DQ04, D1 DRAM_DQ03, D2 DRAM_DQ02, D5 DRAM_AC11/CA3_A / A8 / A8, E1 DRAM_DQ14, E2 DRAM_DQ15, E4 DRAM_AC10/CA2_A / A7 / A7, F1 DRAM_DM1, F2 DRAM_DQ08, F4 DRAM_AC00/CKE0_A / CKE0 / CKE0, F5 DRAM_AC01/CKE1_A / CKE1 / CKE1, F6 DRAM_AC06/-- / ACT_n / A15, G1 DRAM_DQS1_P, G2 DRAM_DQ09, H1 DRAM_DQS1_N, J1 DRAM_DQ10, J2 DRAM_DQ11, J4 DRAM_AC03/CS1_A / C0 / --, J5 DRAM_AC07/-- / A9 / A9, J6 DRAM_AC08/CA0_A / A12 / A12(BC#), K1 DRAM_DQ13, K2 DRAM_DQ12, K4 DRAM_AC02/CS0_A / CS0_n / CS0#, K5 DRAM_AC14/ -- / A4 / A4, K6 DRAM_AC09/CA1_A / A11 / A11, L1 DRAM_AC05/CK_c_A / BG1 / A14, L2 DRAM_AC04/CK_t_A / BG0 / BA2, M1 DRAM_AC16/-- / CK_t_A / CK_A, M2 DRAM_AC17/-- / CK_c_A / CK#_A, N1 DRAM_AC26/-- / BA1 / BA1, N2 DRAM_AC19/MTEST / MTEST / MTEST, N4 DRAM_AC12/CA4_A / A6 / A6, N5 DRAM_AC13/CA5_A / A5 / A5, N6 DRAM_AC15/-- / A3 / A3, P1 DRAM_VREF, P2 DRAM_ZN, R1 DRAM_RESET_N, R2 DRAM_ALERT_N, R4 DRAM_AC32/CA4_B / C2 / --, R5 DRAM_AC33/CA5_B/CAS_n(A15)/CAS#, R6 DRAM_AC27/-- / PARITY / --, T1 DRAM_AC34/ -- /WE_n(A14)/WE#, T2 DRAM_AC35/-- / RAS_n(A16) / RAS#, U1 DRAM_AC25/CK_c_B / A1 / A1, U2 DRAM_AC24/CK_t_B / A2 / A2, V1 NC_V1, V2 NC_V2, V4 DRAM_AC23/CS0_B / -- / --, V5 DRAM_AC36/-- / ODT0 / ODT0, V6 DRAM_AC29/CA1_B / BA0 / BA0, W1 NC_W1, W2 NC_W2, W4 DRAM_AC22/CS1_B / -- / --, W5 DRAM_AC37/-- / ODT1 / ODT1, W6 DRAM_AC28/CA0_B / A13 / A13, Y1 NC_Y1
part B pins: A22 USB1_DN, A23 NC_A23, B22 USB1_DP, B23 NC_B23, D22 USB1_ID, D23 NC_D23, E19 USB1_TXRTUNE, E22 NC_E22, F22 USB1_VBUS, F23 NC_F23
part C pins: A19 NC_A19, A20 NC_A20, A21 NC_A21, B19 NC_B19, B20 NC_B20, B21 NC_B21, D19 NC_D19
part D pins: A9 MIPI_DSI_D0_N, A10 MIPI_DSI_D1_N, A11 MIPI_DSI_CLK_N, A12 MIPI_DSI_D2_N, A13 MIPI_DSI_D3_N, B9 MIPI_DSI_D0_P, B10 MIPI_DSI_D1_P, B11 MIPI_DSI_CLK_P, B12 MIPI_DSI_D2_P, B13 MIPI_DSI_D3_P
part E pins: A14 MIPI_CSI_D0_N, A15 MIPI_CSI_D1_N, A16 MIPI_CSI_CLK_N, A17 MIPI_CSI_D2_N, A18 MIPI_CSI_D3_N, B14 MIPI_CSI_D0_P, B15 MIPI_CSI_D1_P, B16 MIPI_CSI_CLK_P, B17 MIPI_CSI_D2_P, B18 MIPI_CSI_D3_P
part F pins: D9 I2C2_SDA, D10 I2C2_SCL, D13 I2C4_SCL, D18 UART3_TXD, E9 I2C1_SCL, E10 I2C3_SCL, E13 I2C4_SDA, E14 UART1_RXD, E15 UART2_TXD, E18 UART3_RXD, F9 I2C1_SDA, F10 I2C3_SDA, F13 UART1_TXD, F15 UART2_RXD, F18 UART4_TXD, F19 UART4_RXD
part G pins: AB15 SAI5_RXFS, AB18 NC_AB18, AB19 NC_AB19, AB22 SAI2_RXC, AC6 SAI3_TXFS, AC13 SAI5_RXD3, AC14 SAI5_RXD1, AC15 SAI5_RXC, AC18 NC_AC18, AC19 SAI2_RXFS, AC22 SAI2_TXD0, AC24 SAI2_RXD0, AD6 SAI3_MCLK, AD13 SAI5_RXD2, AD15 SAI5_MCLK, AD18 SAI5_RXD0, AD19 SAI2_MCLK, AD22 SAI2_TXC, AD23 SAI2_TXFS, AF6 SAI3_TXD, AF7 SAI3_RXD, AF8 SPDIF_EXT_CLK, AF9 SPDIF_TX, AF15 NC_AF15, AF16 NC_AF16, AF17 NC_AF17, AF18 NC_AF18, AF19 NC_AF19, AF20 NC_AF20, AF21 NC_AF21, AF22 NC_AF22, AF23 NC_AF23, AG6 SAI3_TXC, AG7 SAI3_RXC, AG8 SAI3_RXFS, AG9 SPDIF_RX, AG15 NC_AG15, AG16 NC_AG16, AG17 NC_AG17, AG18 NC_AG18, AG19 NC_AG19, AG20 NC_AG20, AG21 NC_AG21, AG22 NC_AG22, AG23 NC_AG23
part H pins: K23 NAND_DATA02, K24 NAND_DATA01, K26 NAND_DATA06, K27 NAND_CLE, L26 NAND_DATA05, L27 NAND_CE3_B, M26 NAND_DATA04, M27 NAND_CE2_B, N22 NAND_ALE, N23 NAND_DATA03, N24 NAND_CE0_B, N26 NAND_DATA07, N27 NAND_RE_B, P23 NAND_DATA00, P26 NAND_READY_B, P27 NAND_CE1_B, R22 NAND_DQS, R26 NAND_WE_B, R27 NAND_WP_B
part I pins: AA26 SD2_CD_B, AA27 SD2_WP, AB23 SD2_DATA0, AB24 SD2_DATA1, AB26 SD2_RESET_B, R23 SD1_RESET_B, R24 SD1_STROBE, T26 SD1_DATA3, T27 SD1_DATA2, U26 SD1_DATA5, U27 SD1_DATA4, V23 SD2_DATA3, V24 SD2_DATA2, V26 SD1_CLK, V27 SD1_CMD, W23 SD2_CLK, W24 SD2_CMD, W26 SD1_DATA7, W27 SD1_DATA6, Y26 SD1_DATA1, Y27 SD1_DATA0
part J pins: AB27 ENET_MDIO, AC26 ENET_RD3, AC27 ENET_MDC, AD26 ENET_RD2, AD27 ENET_RD1, AE26 ENET_RXC, AE27 ENET_RD0, AF24 ENET_TX_CTL, AF25 ENET_TD3, AF26 ENET_TD1, AF27 ENET_RX_CTL, AG24 ENET_TXC, AG25 ENET_TD2, AG26 ENET_TD0
part K pins: A6 ECSPI2_SS0, A7 ECSPI1_MISO, A8 ECSPI2_MISO, AB9 GPIO1_IO15, AB10 GPIO1_IO12, AC9 GPIO1_IO14, AC10 GPIO1_IO11, AD9 GPIO1_IO13, AD10 GPIO1_IO10, AF10 GPIO1_IO09, AF11 GPIO1_IO07, AF12 GPIO1_IO05, AF13 GPIO1_IO03, AF14 GPIO1_IO01, AG10 GPIO1_IO08, AG11 GPIO1_IO06, AG12 GPIO1_IO04, AG13 GPIO1_IO02, AG14 GPIO1_IO00, B6 ECSPI1_SS0, B7 ECSPI1_MOSI, B8 ECSPI2_MOSI, D6 ECSPI1_SCLK, E6 ECSPI2_SCLK
part L pins: A24 PMIC_ON_REQ, A25 ONOFF, A26 RTC_XTALI, B24 POR_B, B25 RTC_XTALO, B27 24M_XTALI, C26 24M_XTALO, C27 BOOT_MODE2, D26 BOOT_MODE3, D27 JTAG_MOD, E24 PMIC_STBY_REQ, E26 JTAG_TDO, E27 JTAG_TDI, F24 RTC_RESET_B, F26 JTAG_TCK, F27 JTAG_TMS, G26 BOOT_MODE0, G27 BOOT_MODE1, H26 CLKOUT1, H27 CLKIN1, J23 TSENSOR_TEST_OUT, J24 TSENSOR_RES_EXT, J26 CLKOUT2, J27 CLKIN2
part M pins: AA14 VDD_ANA0_1P8_2 (power), AB13 PVCC0_1P8 (power), D15 MIPI_VREG_CAP, G14 NC_G14 (power), H10 NVCC_ECSPI (power), H13 VDD_MIPI_1P8 (power), H15 VDD_USB_1P8 (power), J10 VDD_DRAM5 (power), J11 NVCC_I2C (power), J12 NVCC_UART (power), J13 PVCC2_1P8 (power), J14 VDD_MIPI_0P8 (power), J15 VDD_MIPI_1P2 (power), J16 NC_J16 (power), J17 VDD_USB_0P8 (power), J18 NC_J18 (power), J22 NVCC_SNVS_1P8 (power), K8 NVCC_DRAM1 (power), K9 NVCC_DRAM2 (power), K12 NC_K12 (power), K13 NC_K13 (power), K15 VDD_SOC1 (power), K16 VDD_SOC2 (power), K19 VDD_USB_3P3 (power), K22 VDD_SNVS_0P8 (power), L9 NVCC_DRAM3 (power), L10 VDD_DRAM1 (power), L11 NC_L11 (power), L13 NC_L13 (power), L15 VDD_SOC3 (power), L17 VDD_ANA_0P8_1 (power), L18 VDD_SOC8 (power), L19 NVCC_JTAG (power), M9 NVCC_DRAM4 (power), M13 NC_M13 (power), M14 NC_M14 (power), M15 VDD_SOC4 (power), M19 NVCC_CLK (power), N8 NVCC_DRAM5 (power), N9 NVCC_DRAM6 (power), N10 VDD_DRAM2 (power), N11 NC_N11 (power), N13 VDD_SOC5 (power), N15 VDD_SOC6 (power), N17 VDD_ANA_0P8_2 (power), N18 VDD_SOC7 (power), N19 VDD_24M_XTAL_1P8 (power), N20 VDD_ANA1_1P8_1 (power), P5 VDD_DRAM_PLL_1P8 (power), P7 NVCC_DRAM13, P9 VDD_DRAM_PLL_0P8 (power), P12 VDD_GPU1 (power), P16 VDD_ARM_PLL_0P8 (power), P19 VDD_ANA1_1P8_2 (power), R8 NVCC_DRAM7 (power), R9 NVCC_DRAM8 (power), R10 VDD_DRAM3 (power), R11 VDD_GPU2 (power), R13 VDD_ARM1 (power), R15 VDD_ARM2 (power), R17 VDD_SOC9 (power), R18 VDD_SOC10 (power), R19 VDD_ARM_PLL_1P8 (power), T9 NVCC_DRAM9 (power), T13 VDD_ARM3 (power), T14 VDD_ARM4 (power), T15 VDD_ARM5 (power), T19 PVCC1_1P8 (power), U9 NVCC_DRAM10 (power), U10 VDD_DRAM4 (power), U11 VDD_GPU3 (power), U13 VDD_ARM6 (power), U15 VDD_ARM7 (power), U17 VDD_SOC11 (power), U18 VDD_SOC12 (power), U19 NVCC_NAND (power), V8 NVCC_DRAM11 (power), V9 NVCC_DRAM12 (power), V12 VDD_GPU4 (power), V13 VDD_ARM8 (power), V15 VDD_ARM9 (power), V16 VDD_ARM10 (power), V19 NVCC_SAI2 (power), V20 NVCC_SD1 (power), V22 NVCC_SD2 (power), W10 VDD_DRAM6 (power), W11 VDD_GPU5 (power), W12 NVCC_GPIO1 (power), W13 VDD_ARM11 (power), W14 VDD_ARM12 (power), W15 VDD_ARM13 (power), W16 VDD_ARM14 (power), W17 NVCC_SAI5 (power), W18 NC_W18 (power), W22 NVCC_ENET (power), Y10 NVCC_SAI3 (power), Y15 VDD_ANA0_1P8_1 (power)
part N pins: A1 VSS1 (power), A27 VSS2 (power), AA7 VSS9 (power), AA9 VSS10 (power), AA10 VSS3 (power), AA13 VSS4 (power), AA15 VSS5 (power), AA18 VSS6 (power), AA19 VSS7 (power), AA21 VSS8 (power), AB3 VSS12 (power), AB25 VSS11 (power), AC3 VSS14 (power), AC25 VSS13 (power), AE2 VSS21 (power), AE5 VSS24 (power), AE6 VSS25 (power), AE9 VSS26 (power), AE10 VSS15 (power), AE13 VSS16 (power), AE14 VSS17 (power), AE15 VSS18 (power), AE18 VSS19 (power), AE19 VSS20 (power), AE22 VSS22 (power), AE23 VSS23 (power), AF3 VSS27 (power), AG1 VSS28 (power), AG27 VSS29 (power), B3 VSS31 (power), B26 VSS30 (power), C2 VSS38 (power), C5 VSS41 (power), C6 VSS42 (power), C9 VSS43 (power), C10 VSS32 (power), C13 VSS33 (power), C14 VSS34 (power), C15 VSS35 (power), C18 VSS36 (power), C19 VSS37 (power), C22 VSS39 (power), C23 VSS40 (power), E3 VSS45 (power), E25 VSS44 (power), F3 VSS47 (power), F25 VSS46 (power), G7 VSS54 (power), G9 VSS55 (power), G10 VSS48 (power), G13 VSS49 (power), G15 VSS50 (power), G18 VSS51 (power), G19 VSS52 (power), G21 VSS53 (power), H2 VSS57 (power), H18 VSS56 (power), J3 VSS60 (power), J7 VSS61 (power), J21 VSS58 (power), J25 VSS59 (power), K3 VSS65 (power), K7 VSS66 (power), K20 VSS62 (power), K21 VSS63 (power), K25 VSS64 (power), L12 VSS67 (power), L16 VSS68 (power), M12 VSS69 (power), M16 VSS70 (power), N3 VSS75 (power), N7 VSS76 (power), N12 VSS71 (power), N16 VSS72 (power), N21 VSS73 (power), N25 VSS74 (power), P3 VSS81 (power), P13 VSS77 (power), P15 VSS78 (power), P21 VSS79 (power), P25 VSS80 (power), R3 VSS87 (power), R7 VSS88 (power), R12 VSS82 (power), R16 VSS83 (power), R20 VSS84 (power), R21 VSS85 (power), R25 VSS86 (power), T12 VSS89 (power), T16 VSS90 (power), U12 VSS91 (power), U16 VSS92 (power), V3 VSS95 (power), V7 VSS96 (power), V21 VSS93 (power), V25 VSS94 (power), W3 VSS99 (power), W7 VSS100 (power), W21 VSS97 (power), W25 VSS98 (power), Y2 VSS103 (power), Y13 VSS101 (power), Y18 VSS102 (power)
part A text: DDR; PAD/(LPDDR4/DDR4/DDR3)
part B text: USB
part D text: DSI
part E text: CSI
part F text: UART&I2C
part G text: SAI
part H text: NAND
part I text: SDHC
part J text: eNET
part K text: SPI&GPIO
part L text: MISC; VDD_ANA1_1P8
part M text: Power
part N text: GND

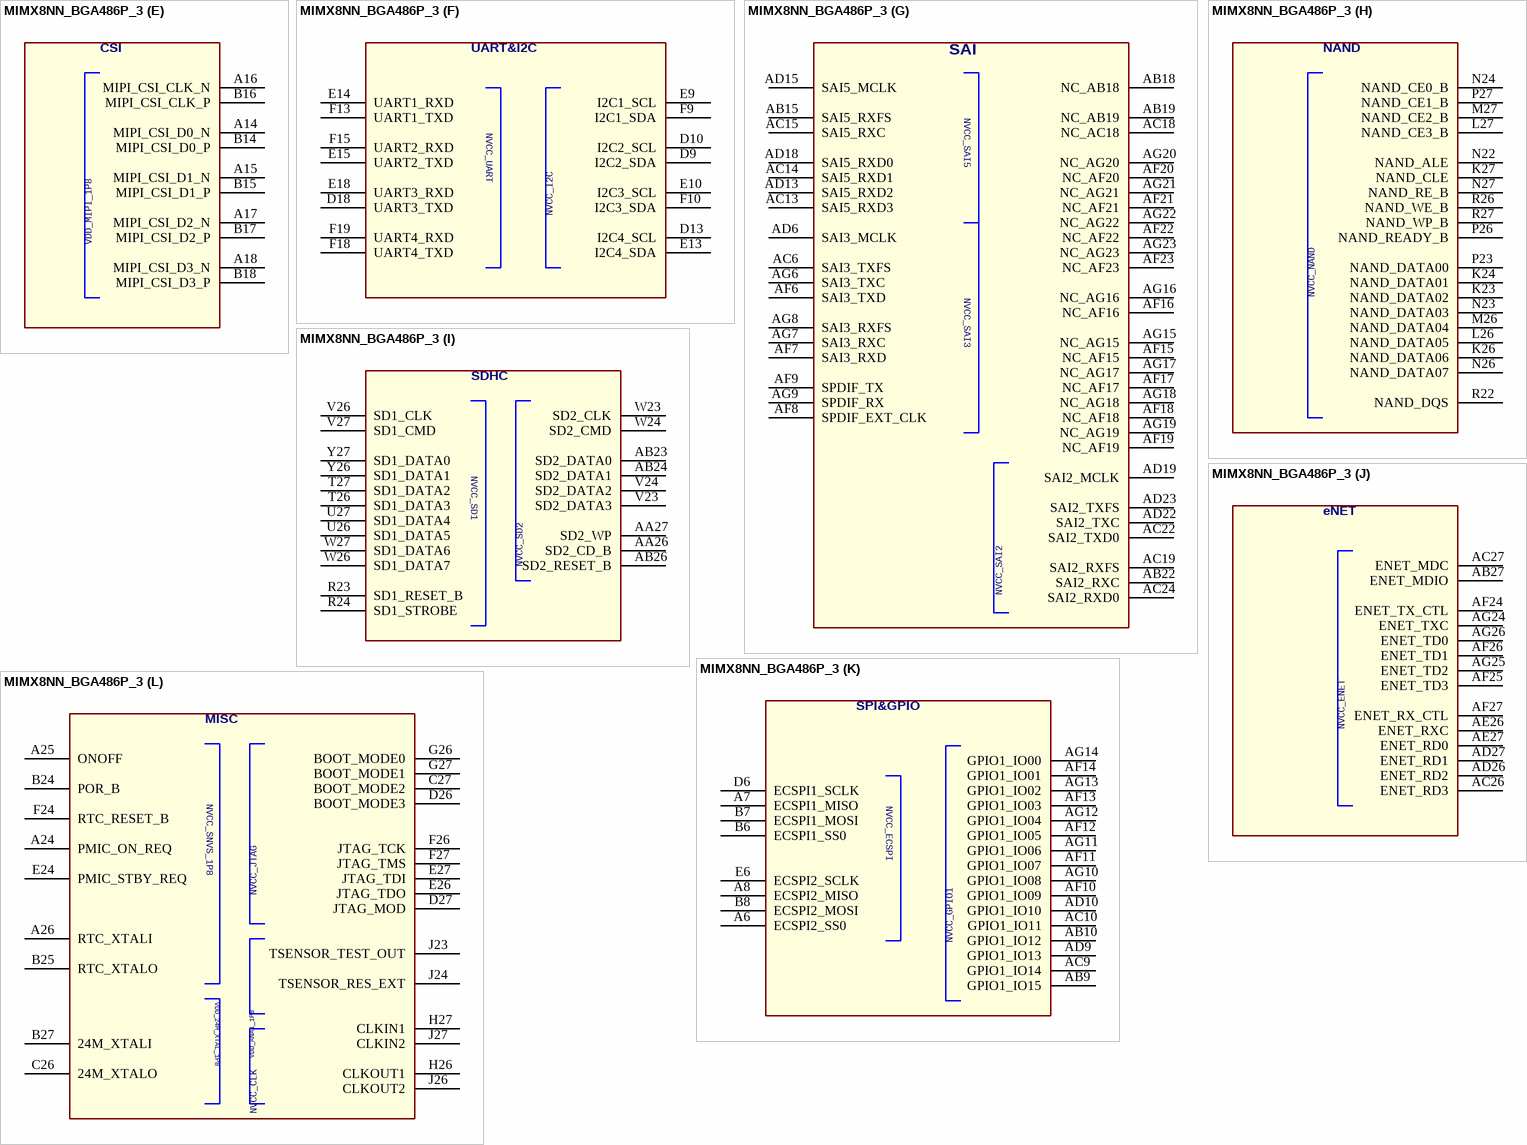
[diagram p12: symbol MIMX8NN_BGA486P_3]

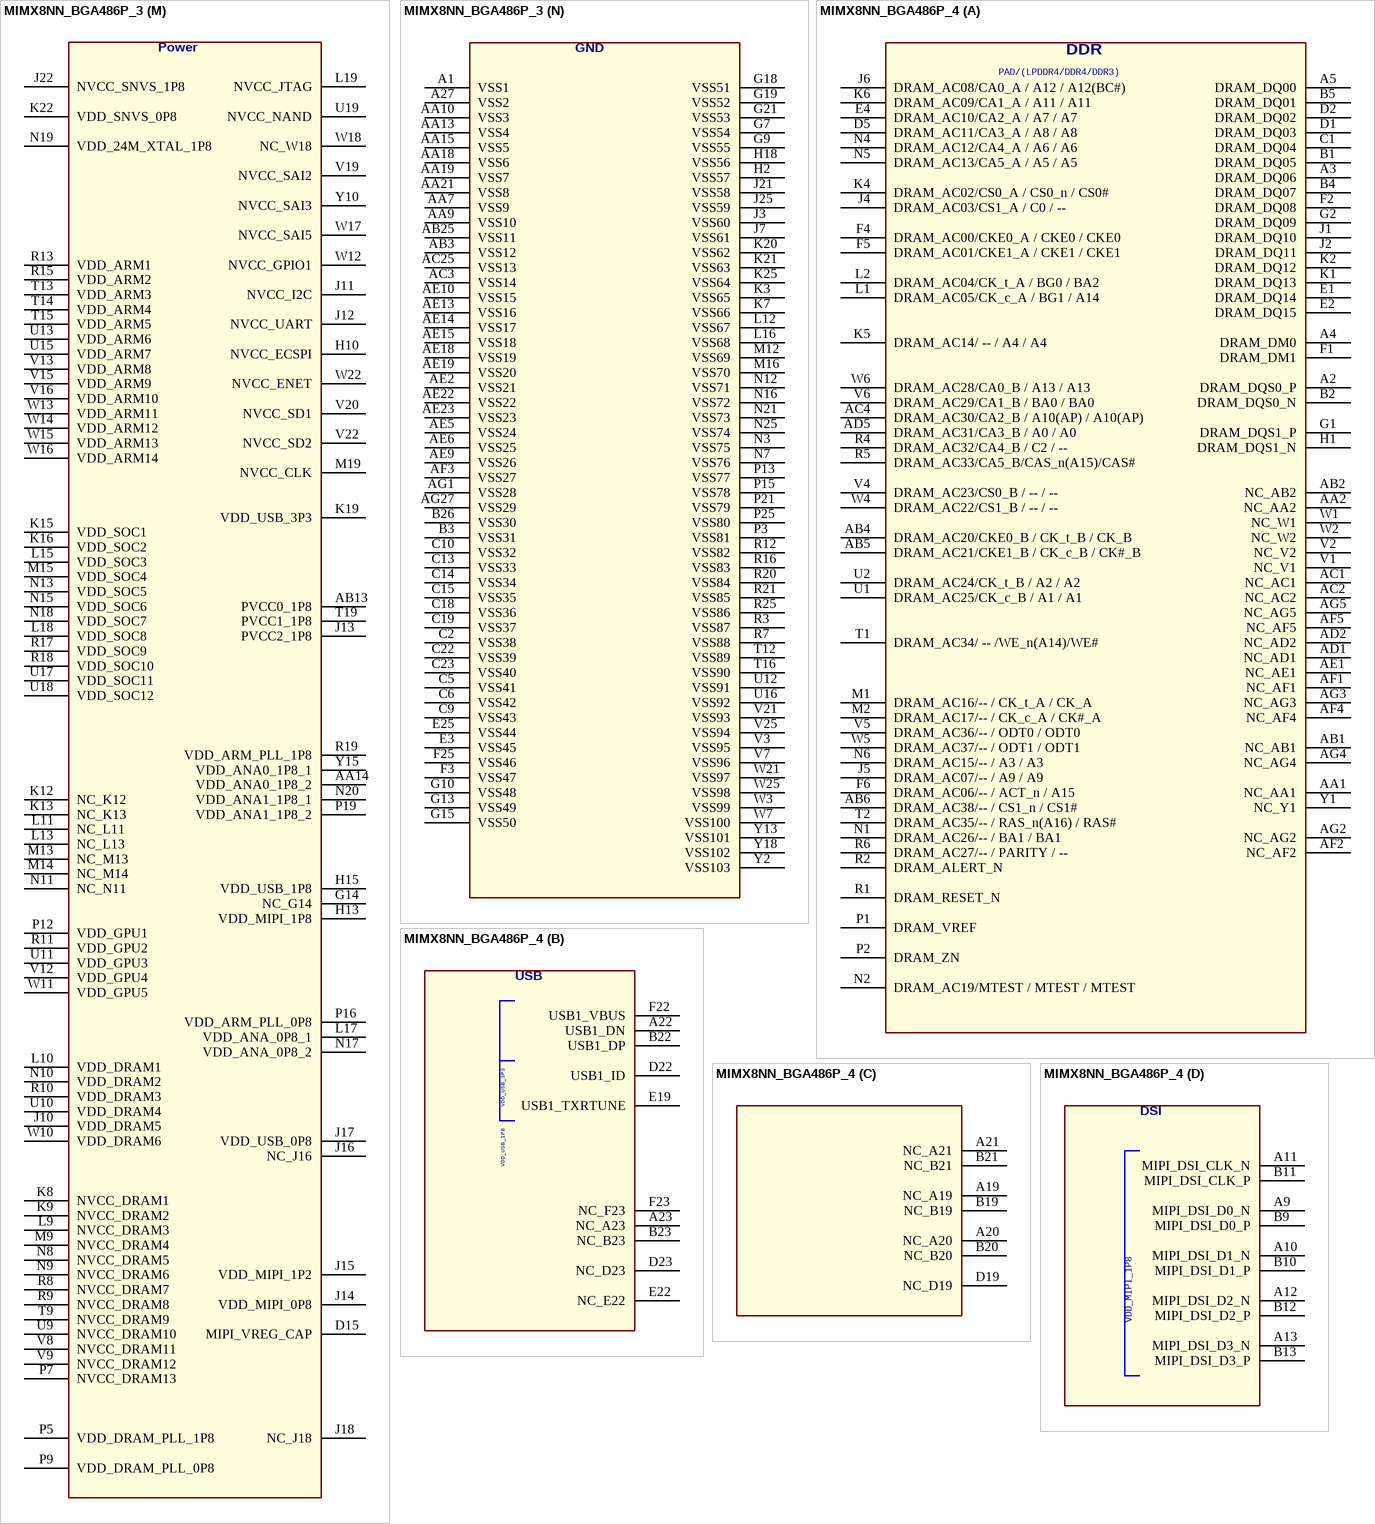
[diagram p13: symbols MIMX8NN_BGA486P_3 to MIMX8NN_BGA486P_4]